# Altium integrated library Renesas Microcontroller R32C.IntLib: 205 symbols (part 15 of 22)
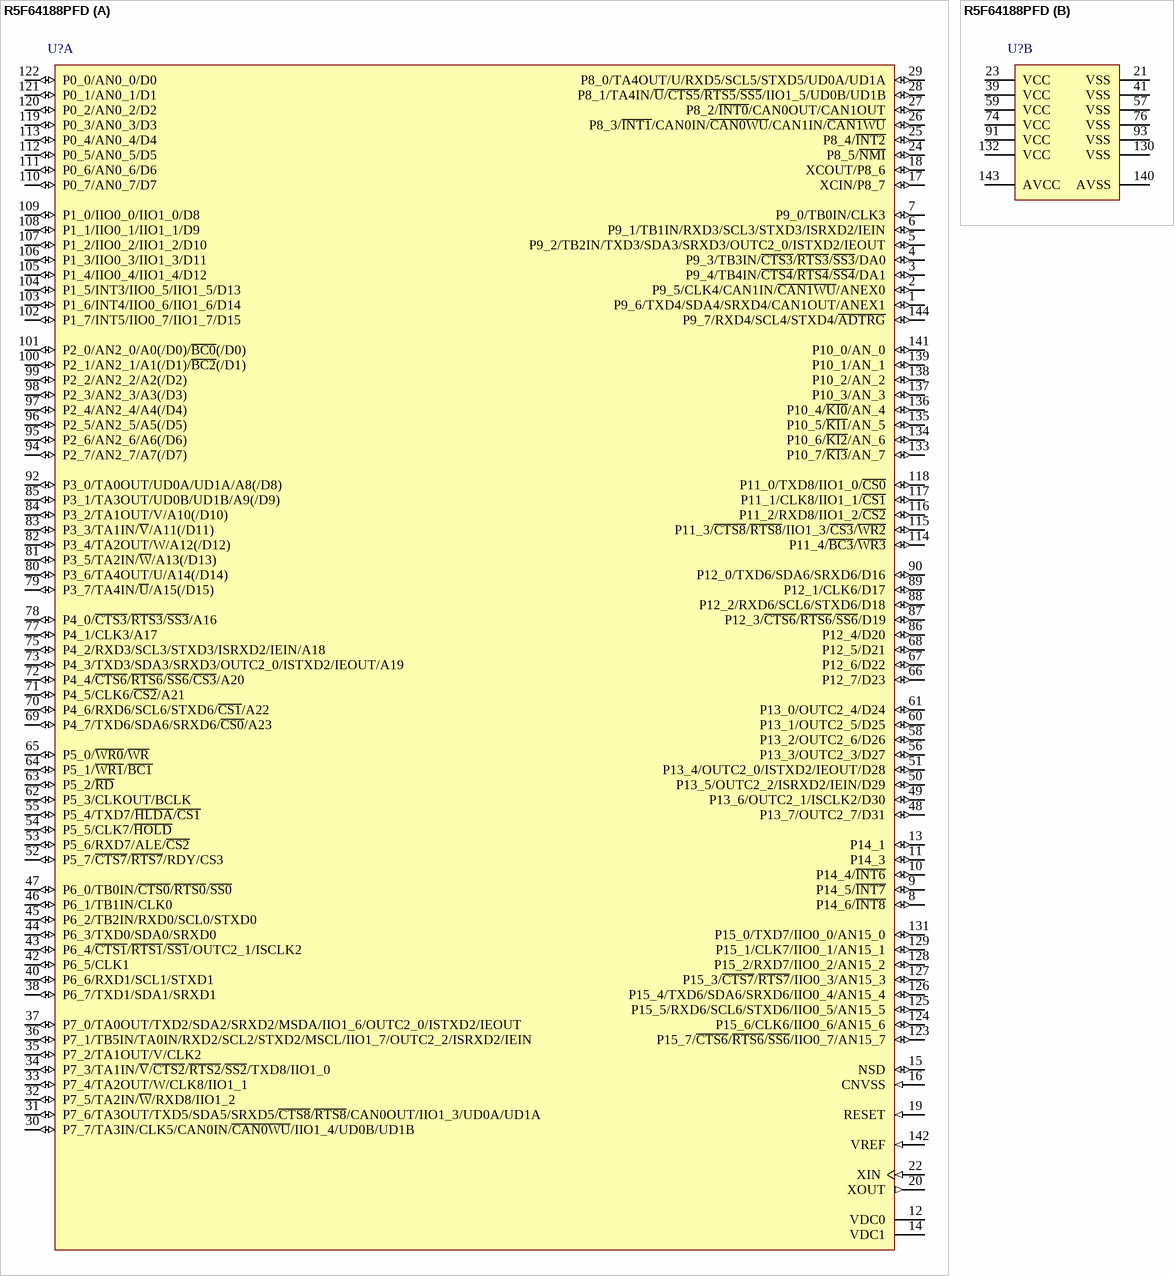
[diagram p153: symbol R5F64188PFD]

## R5F64188PFD
designator U?
Flash Memory R32C/100 Series, 118 Group MCU, 768K + 8K ROM, 63K RAM, 144-pin LQFP, -40 to +85°C, Version P; Published: 28-Aug-2009; LatestRevisionDate: 26-Feb-2010; LatestRevisionNote: Updated to datasheet revision 1.00 Nov-2009.; DatasheetVersion: Rev.1.00, Nov-2009; PackageVersion: Sep-2005; PackageReference: PLQP0144KA-A; Publisher: Altium Limited; PackageDescription: 144-Pin Plastic Low Profile QFP, 20 x 20 x 1.4 mm Body, 0.5 mm Pitch; Code_JEITA: P-LQFP144-20x20-0.50; Code_IPC: SQFP50P2200X2200-144; ComponentLink1Description: Manufacturer Link; ComponentLink1URL: http://sg.renesas.com/fmwk.jsp?cnt=m16c_family_landing.jsp&fp=/products/mpumcu/m16c_family/; ComponentLink2Description: Datasheet; ComponentLink2URL: http://documentation.renesas.com/eng/products/mpumcu/rej03b0255_r32c118ds.pdf; ComponentLink3Description: Packaging Specification; ComponentLink3URL: http://sg.renesas.com/media/products/common_info/package/pdf/ic/code/plqp0144ka_a.pdf
footprint PLQP0144KA-A_N (Shrink QFP, 144-Leads, Body 20x20mm, Pitch 0.5mm, IPC Medium Density)
footprint PLQP0144KA-A_L (Shrink QFP, 144-Leads, Body 20x20mm, Pitch 0.5mm, IPC High Density)
footprint PLQP0144KA-A_M (Shrink QFP, 144-Leads, Body 20x20mm, Pitch 0.5mm, IPC Low Density)
part A pins: 1 P9_6/TXD4/SDA4/SRXD4/CAN1OUT/ANEX1 (io), 2 P9_5/CLK4/CAN1IN/~{CAN1WU}/ANEX0 (io), 3 P9_4/TB4IN/~{CTS4}/~{RTS4}/~{SS4}/DA1 (io), 4 P9_3/TB3IN/~{CTS3}/~{RTS3}/~{SS3}/DA0 (io), 5 P9_2/TB2IN/TXD3/SDA3/SRXD3/OUTC2_0/ISTXD2/IEOUT (io), 6 P9_1/TB1IN/RXD3/SCL3/STXD3/ISRXD2/IEIN (io), 7 P9_0/TB0IN/CLK3 (io), 8 P14_6/~{INT8} (io), 9 P14_5/~{INT7} (io), 10 P14_4/~{INT6} (io), 11 P14_3 (io), 12 VDC0, 13 P14_1 (io), 14 VDC1, 15 NSD (io), 16 CNVSS (in), 17 XCIN/P8_7 (io), 18 XCOUT/P8_6 (io), 19 RESET (in), 20 XOUT (out), 22 XIN (in), 24 P8_5/~{NMI} (io), 25 P8_4/~{INT2} (io), 26 P8_3/~{INT1}/CAN0IN/~{CAN0WU}/CAN1IN/~{CAN1WU} (io), 27 P8_2/~{INT0}/CAN0OUT/CAN1OUT (io), 28 P8_1/TA4IN/~{U}/~{CTS5}/~{RTS5}/~{SS5}/IIO1_5/UD0B/UD1B (io), 29 P8_0/TA4OUT/U/RXD5/SCL5/STXD5/UD0A/UD1A (io), 30 P7_7/TA3IN/CLK5/CAN0IN/~{CAN0WU}/IIO1_4/UD0B/UD1B (io), 31 P7_6/TA3OUT/TXD5/SDA5/SRXD5/~{CTS8}/~{RTS8}/CAN0OUT/IIO1_3/UD0A/UD1A (io), 32 P7_5/TA2IN/~{W}/RXD8/IIO1_2 (io), 33 P7_4/TA2OUT/W/CLK8/IIO1_1 (io), 34 P7_3/TA1IN/~{V}/~{CTS2}/~{RTS2}/~{SS2}/TXD8/IIO1_0 (io), 35 P7_2/TA1OUT/V/CLK2 (io), 36 P7_1/TB5IN/TA0IN/RXD2/SCL2/STXD2/MSCL/IIO1_7/OUTC2_2/ISRXD2/IEIN (io), 37 P7_0/TA0OUT/TXD2/SDA2/SRXD2/MSDA/IIO1_6/OUTC2_0/ISTXD2/IEOUT (io), 38 P6_7/TXD1/SDA1/SRXD1 (io), 40 P6_6/RXD1/SCL1/STXD1 (io), 42 P6_5/CLK1 (io), 43 P6_4/~{CTS1}/~{RTS1}/~{SS1}/OUTC2_1/ISCLK2 (io), 44 P6_3/TXD0/SDA0/SRXD0 (io), 45 P6_2/TB2IN/RXD0/SCL0/STXD0 (io), 46 P6_1/TB1IN/CLK0 (io), 47 P6_0/TB0IN/~{CTS0}/~{RTS0}/~{SS0} (io), 48 P13_7/OUTC2_7/D31 (io), 49 P13_6/OUTC2_1/ISCLK2/D30 (io), 50 P13_5/OUTC2_2/ISRXD2/IEIN/D29 (io), 51 P13_4/OUTC2_0/ISTXD2/IEOUT/D28 (io), 52 P5_7/~{CTS7}/~{RTS7}/RDY/CS3 (io), 53 P5_6/RXD7/ALE/~{CS2} (io), 54 P5_5/CLK7/~{HOLD} (io), 55 P5_4/TXD7/~{HLDA}/~{CS1} (io), 56 P13_3/OUTC2_3/D27 (io), 58 P13_2/OUTC2_6/D26 (io), 60 P13_1/OUTC2_5/D25 (io), 61 P13_0/OUTC2_4/D24 (io), 62 P5_3/CLKOUT/BCLK (io), 63 P5_2/~{RD} (io), 64 P5_1/~{WR1}/~{BC1} (io), 65 P5_0/~{WR0}/~{WR} (io), 66 P12_7/D23 (io), 67 P12_6/D22 (io), 68 P12_5/D21 (io), 69 P4_7/TXD6/SDA6/SRXD6/~{CS0}/A23 (io), 70 P4_6/RXD6/SCL6/STXD6/~{CS1}/A22 (io), 71 P4_5/CLK6/~{CS2}/A21 (io), 72 P4_4/~{CTS6}/~{RTS6}/~{SS6}/~{CS3}/A20 (io), 73 P4_3/TXD3/SDA3/SRXD3/OUTC2_0/ISTXD2/IEOUT/A19 (io), 75 P4_2/RXD3/SCL3/STXD3/ISRXD2/IEIN/A18 (io), 77 P4_1/CLK3/A17 (io), 78 P4_0/~{CTS3}/~{RTS3}/~{SS3}/A16 (io), 79 P3_7/TA4IN/~{U}/A15(/D15) (io), 80 P3_6/TA4OUT/U/A14(/D14) (io), 81 P3_5/TA2IN/~{W}/A13(/D13) (io), 82 P3_4/TA2OUT/W/A12(/D12) (io), 83 P3_3/TA1IN/~{V}/A11(/D11) (io), 84 P3_2/TA1OUT/V/A10(/D10) (io), 85 P3_1/TA3OUT/UD0B/UD1B/A9(/D9) (io), 86 P12_4/D20 (io), 87 P12_3/~{CTS6}/~{RTS6}/~{SS6}/D19 (io), 88 P12_2/RXD6/SCL6/STXD6/D18 (io), 89 P12_1/CLK6/D17 (io), 90 P12_0/TXD6/SDA6/SRXD6/D16 (io), 92 P3_0/TA0OUT/UD0A/UD1A/A8(/D8) (io), 94 P2_7/AN2_7/A7(/D7) (io), 95 P2_6/AN2_6/A6(/D6) (io), 96 P2_5/AN2_5/A5(/D5) (io), 97 P2_4/AN2_4/A4(/D4) (io), 98 P2_3/AN2_3/A3(/D3) (io), 99 P2_2/AN2_2/A2(/D2) (io), 100 P2_1/AN2_1/A1(/D1)/~{BC2}(/D1) (io), 101 P2_0/AN2_0/A0(/D0)/~{BC0}(/D0) (io), 102 P1_7/INT5/IIO0_7/IIO1_7/D15 (io), 103 P1_6/INT4/IIO0_6/IIO1_6/D14 (io), 104 P1_5/INT3/IIO0_5/IIO1_5/D13 (io), 105 P1_4/IIO0_4/IIO1_4/D12 (io), 106 P1_3/IIO0_3/IIO1_3/D11 (io), 107 P1_2/IIO0_2/IIO1_2/D10 (io), 108 P1_1/IIO0_1/IIO1_1/D9 (io), 109 P1_0/IIO0_0/IIO1_0/D8 (io), 110 P0_7/AN0_7/D7 (io), 111 P0_6/AN0_6/D6 (io), 112 P0_5/AN0_5/D5 (io), 113 P0_4/AN0_4/D4 (io), 114 P11_4/~{BC3}/~{WR3} (io), 115 P11_3/~{CTS8}/~{RTS8}/IIO1_3/~{CS3}/~{WR2} (io), 116 P11_2/RXD8/IIO1_2/~{CS2} (io), 117 P11_1/CLK8/IIO1_1/~{CS1} (io), 118 P11_0/TXD8/IIO1_0/~{CS0} (io), 119 P0_3/AN0_3/D3 (io), 120 P0_2/AN0_2/D2 (io), 121 P0_1/AN0_1/D1 (io), 122 P0_0/AN0_0/D0 (io), 123 P15_7/~{CTS6}/~{RTS6}/~{SS6}/IIO0_7/AN15_7 (io), 124 P15_6/CLK6/IIO0_6/AN15_6 (io), 125 P15_5/RXD6/SCL6/STXD6/IIO0_5/AN15_5 (io), 126 P15_4/TXD6/SDA6/SRXD6/IIO0_4/AN15_4 (io), 127 P15_3/~{CTS7}/~{RTS7}/IIO0_3/AN15_3 (io), 128 P15_2/RXD7/IIO0_2/AN15_2 (io), 129 P15_1/CLK7/IIO0_1/AN15_1 (io), 131 P15_0/TXD7/IIO0_0/AN15_0 (io), 133 P10_7/~{KI3}/AN_7 (io), 134 P10_6/~{KI2}/AN_6 (io), 135 P10_5/~{KI1}/AN_5 (io), 136 P10_4/~{KI0}/AN_4 (io), 137 P10_3/AN_3 (io), 138 P10_2/AN_2 (io), 139 P10_1/AN_1 (io), 141 P10_0/AN_0 (io), 142 VREF (in), 144 P9_7/RXD4/SCL4/STXD4/~{ADTRG} (io)
part B pins: 21 VSS (power), 23 VCC (power), 39 VCC (power), 41 VSS (power), 57 VSS (power), 59 VCC (power), 74 VCC (power), 76 VSS (power), 91 VCC (power), 93 VSS (power), 130 VSS (power), 132 VCC (power), 140 AVSS (power), 143 AVCC (power)

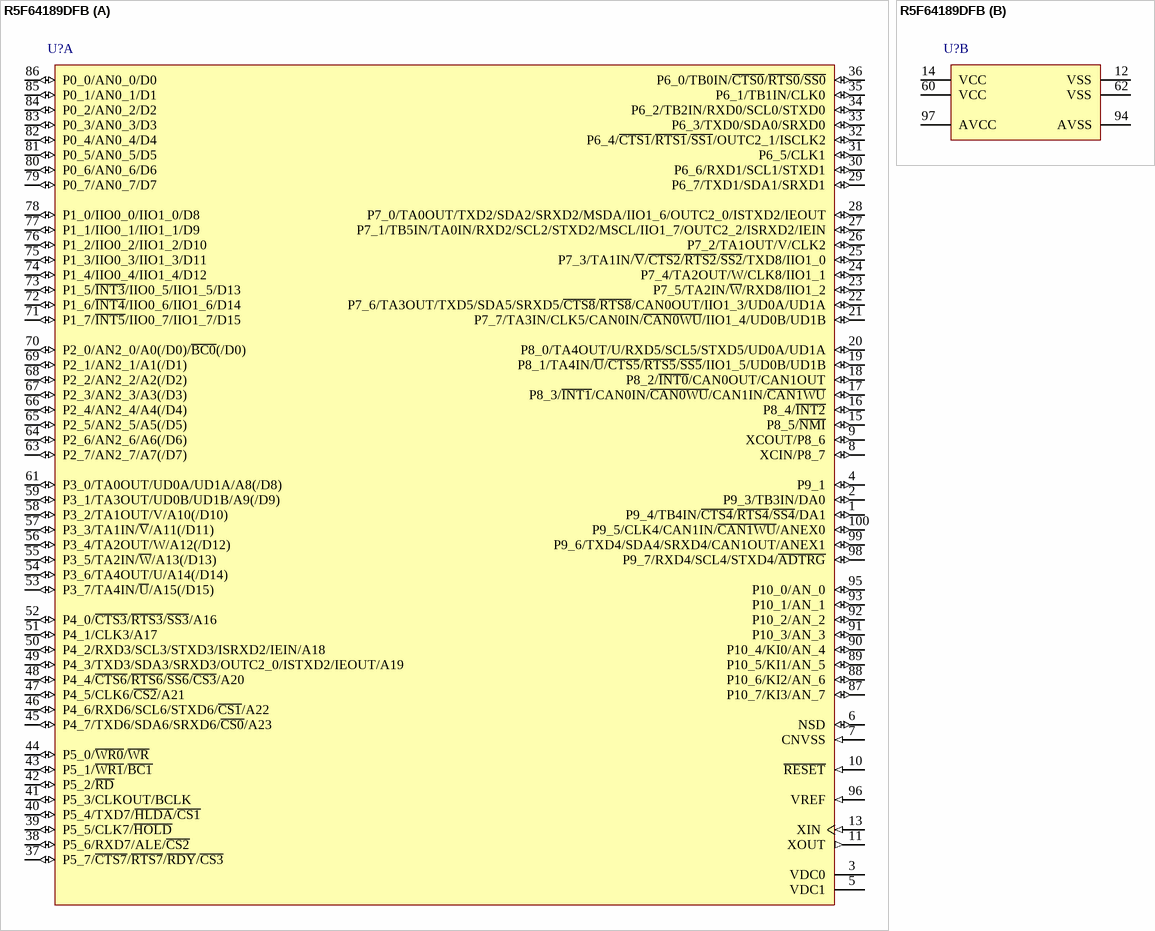
[diagram p102: symbol R5F64189DFB]

## R5F64189DFB
designator U?
Flash Memory R32C/100 Series, 118 Group MCU, 1024K + 8K ROM, 63K RAM, 100-pin LQFP, -40 to +85°C, Version D; Published: 28-Aug-2009; LatestRevisionDate: 26-Feb-2010; LatestRevisionNote: Updated to datasheet revision 1.00 Nov-2009.; DatasheetVersion: Rev.1.00, Nov-2009; PackageVersion: Sep-2005; PackageReference: PLQP0100KB-A; Publisher: Altium Limited; PackageDescription: 100-Pin Plastic Low Profile QFP, 14 x 14 x 1.4 mm Body, 0.5 mm Pitch; Code_JEITA: P-LQFP100-14x14-0.50; Code_IPC: SQFP50P1600X1600-100; ComponentLink1Description: Manufacturer Link; ComponentLink1URL: http://sg.renesas.com/fmwk.jsp?cnt=m16c_family_landing.jsp&fp=/products/mpumcu/m16c_family/; ComponentLink2Description: Datasheet; ComponentLink2URL: http://documentation.renesas.com/eng/products/mpumcu/rej03b0255_r32c118ds.pdf; ComponentLink3Description: Packaging Specification; ComponentLink3URL: http://sg.renesas.com/media/products/common_info/package/pdf/ic/code/plqp0100kb_a.pdf
footprint PLQP0100KB-A_N (Shrink QFP, 100-Leads, Body 14x14mm, Pitch 0.5mm, IPC Medium Density)
footprint PLQP0100KB-A_L (Shrink QFP, 100-Leads, Body 14x14mm, Pitch 0.5mm, IPC High Density)
footprint PLQP0100KB-A_M (Shrink QFP, 100-Leads, Body 14x14mm, Pitch 0.5mm, IPC Low Density)
part A pins: 1 P9_4/TB4IN/~{CTS4}/~{RTS4}/~{SS4}/DA1 (io), 2 P9_3/TB3IN/DA0 (io), 3 VDC0, 4 P9_1 (io), 5 VDC1, 6 NSD (io), 7 CNVSS (in), 8 XCIN/P8_7 (io), 9 XCOUT/P8_6 (io), 10 ~{RESET} (in), 11 XOUT (out), 13 XIN (in), 15 P8_5/~{NMI} (io), 16 P8_4/~{INT2} (io), 17 P8_3/~{INT1}/CAN0IN/~{CAN0WU}/CAN1IN/~{CAN1WU} (io), 18 P8_2/~{INT0}/CAN0OUT/CAN1OUT (io), 19 P8_1/TA4IN/~{U}/~{CTS5}/~{RTS5}/~{SS5}/IIO1_5/UD0B/UD1B (io), 20 P8_0/TA4OUT/U/RXD5/SCL5/STXD5/UD0A/UD1A (io), 21 P7_7/TA3IN/CLK5/CAN0IN/~{CAN0WU}/IIO1_4/UD0B/UD1B (io), 22 P7_6/TA3OUT/TXD5/SDA5/SRXD5/~{CTS8}/~{RTS8}/CAN0OUT/IIO1_3/UD0A/UD1A (io), 23 P7_5/TA2IN/~{W}/RXD8/IIO1_2 (io), 24 P7_4/TA2OUT/W/CLK8/IIO1_1 (io), 25 P7_3/TA1IN/~{V}/~{CTS2}/~{RTS2}/~{SS2}/TXD8/IIO1_0 (io), 26 P7_2/TA1OUT/V/CLK2 (io), 27 P7_1/TB5IN/TA0IN/RXD2/SCL2/STXD2/MSCL/IIO1_7/OUTC2_2/ISRXD2/IEIN (io), 28 P7_0/TA0OUT/TXD2/SDA2/SRXD2/MSDA/IIO1_6/OUTC2_0/ISTXD2/IEOUT (io), 29 P6_7/TXD1/SDA1/SRXD1 (io), 30 P6_6/RXD1/SCL1/STXD1 (io), 31 P6_5/CLK1 (io), 32 P6_4/~{CTS1}/~{RTS1}/~{SS1}/OUTC2_1/ISCLK2 (io), 33 P6_3/TXD0/SDA0/SRXD0 (io), 34 P6_2/TB2IN/RXD0/SCL0/STXD0 (io), 35 P6_1/TB1IN/CLK0 (io), 36 P6_0/TB0IN/~{CTS0}/~{RTS0}/~{SS0} (io), 37 P5_7/~{CTS7}/~{RTS7}/~{RDY}/~{CS3} (io), 38 P5_6/RXD7/ALE/~{CS2} (io), 39 P5_5/CLK7/~{HOLD} (io), 40 P5_4/TXD7/~{HLDA}/~{CS1} (io), 41 P5_3/CLKOUT/BCLK (io), 42 P5_2/~{RD} (io), 43 P5_1/~{WR1}/~{BC1} (io), 44 P5_0/~{WR0}/~{WR} (io), 45 P4_7/TXD6/SDA6/SRXD6/~{CS0}/A23 (io), 46 P4_6/RXD6/SCL6/STXD6/~{CS1}/A22 (io), 47 P4_5/CLK6/~{CS2}/A21 (io), 48 P4_4/~{CTS6}/~{RTS6}/~{SS6}/~{CS3}/A20 (io), 49 P4_3/TXD3/SDA3/SRXD3/OUTC2_0/ISTXD2/IEOUT/A19 (io), 50 P4_2/RXD3/SCL3/STXD3/ISRXD2/IEIN/A18 (io), 51 P4_1/CLK3/A17 (io), 52 P4_0/~{CTS3}/~{RTS3}/~{SS3}/A16 (io), 53 P3_7/TA4IN/~{U}/A15(/D15) (io), 54 P3_6/TA4OUT/U/A14(/D14) (io), 55 P3_5/TA2IN/~{W}/A13(/D13) (io), 56 P3_4/TA2OUT/W/A12(/D12) (io), 57 P3_3/TA1IN/~{V}/A11(/D11) (io), 58 P3_2/TA1OUT/V/A10(/D10) (io), 59 P3_1/TA3OUT/UD0B/UD1B/A9(/D9) (io), 61 P3_0/TA0OUT/UD0A/UD1A/A8(/D8) (io), 63 P2_7/AN2_7/A7(/D7) (io), 64 P2_6/AN2_6/A6(/D6) (io), 65 P2_5/AN2_5/A5(/D5) (io), 66 P2_4/AN2_4/A4(/D4) (io), 67 P2_3/AN2_3/A3(/D3) (io), 68 P2_2/AN2_2/A2(/D2) (io), 69 P2_1/AN2_1/A1(/D1) (io), 70 P2_0/AN2_0/A0(/D0)/~{BC0}(/D0) (io), 71 P1_7/~{INT5}/IIO0_7/IIO1_7/D15 (io), 72 P1_6/~{INT4}/IIO0_6/IIO1_6/D14 (io), 73 P1_5/~{INT3}/IIO0_5/IIO1_5/D13 (io), 74 P1_4/IIO0_4/IIO1_4/D12 (io), 75 P1_3/IIO0_3/IIO1_3/D11 (io), 76 P1_2/IIO0_2/IIO1_2/D10 (io), 77 P1_1/IIO0_1/IIO1_1/D9 (io), 78 P1_0/IIO0_0/IIO1_0/D8 (io), 79 P0_7/AN0_7/D7 (io), 80 P0_6/AN0_6/D6 (io), 81 P0_5/AN0_5/D5 (io), 82 P0_4/AN0_4/D4 (io), 83 P0_3/AN0_3/D3 (io), 84 P0_2/AN0_2/D2 (io), 85 P0_1/AN0_1/D1 (io), 86 P0_0/AN0_0/D0 (io), 87 P10_7/KI3/AN_7 (io), 88 P10_6/KI2/AN_6 (io), 89 P10_5/KI1/AN_5 (io), 90 P10_4/KI0/AN_4 (io), 91 P10_3/AN_3 (io), 92 P10_2/AN_2 (io), 93 P10_1/AN_1 (io), 95 P10_0/AN_0 (io), 96 VREF (in), 98 P9_7/RXD4/SCL4/STXD4/~{ADTRG} (io), 99 P9_6/TXD4/SDA4/SRXD4/CAN1OUT/ANEX1 (io), 100 P9_5/CLK4/CAN1IN/~{CAN1WU}/ANEX0 (io)
part B pins: 12 VSS (power), 14 VCC (power), 60 VCC (power), 62 VSS (power), 94 AVSS (power), 97 AVCC (power)

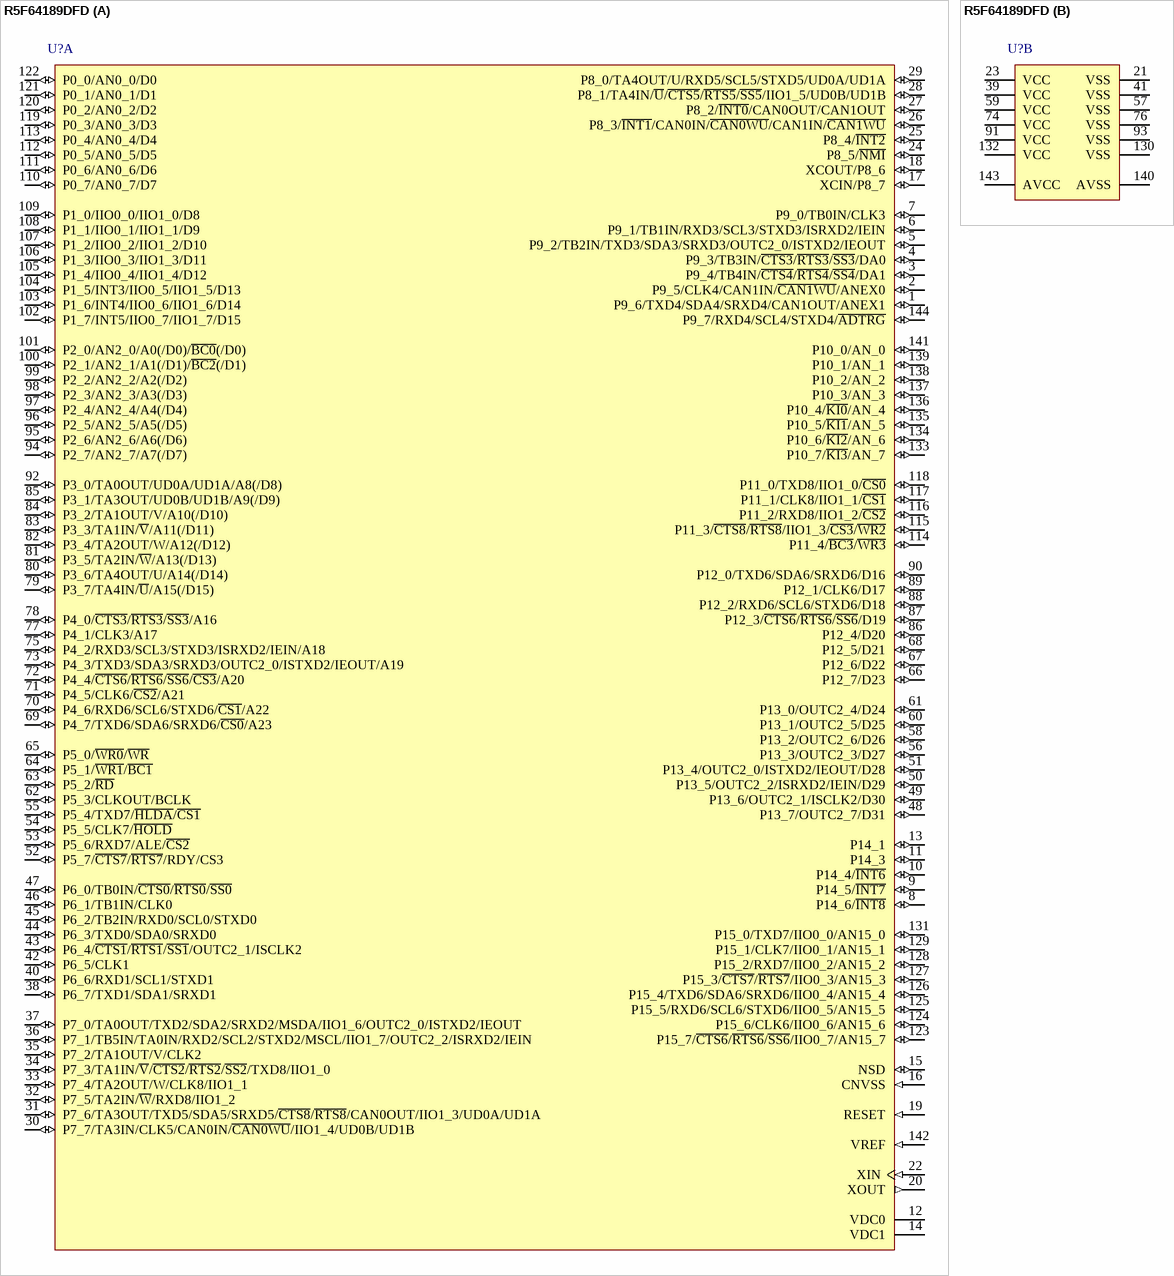
[diagram p103: symbol R5F64189DFD]

## R5F64189DFD
designator U?
Flash Memory R32C/100 Series, 118 Group MCU, 1024K + 8K ROM, 63K RAM, 144-pin LQFP, -40 to +85°C, Version D; Published: 28-Aug-2009; LatestRevisionDate: 26-Feb-2010; LatestRevisionNote: Updated to datasheet revision 1.00 Nov-2009.; DatasheetVersion: Rev.1.00, Nov-2009; PackageVersion: Sep-2005; PackageReference: PLQP0144KA-A; Publisher: Altium Limited; PackageDescription: 144-Pin Plastic Low Profile QFP, 20 x 20 x 1.4 mm Body, 0.5 mm Pitch; Code_JEITA: P-LQFP144-20x20-0.50; Code_IPC: SQFP50P2200X2200-144; ComponentLink1Description: Manufacturer Link; ComponentLink1URL: http://sg.renesas.com/fmwk.jsp?cnt=m16c_family_landing.jsp&fp=/products/mpumcu/m16c_family/; ComponentLink2Description: Datasheet; ComponentLink2URL: http://documentation.renesas.com/eng/products/mpumcu/rej03b0255_r32c118ds.pdf; ComponentLink3Description: Packaging Specification; ComponentLink3URL: http://sg.renesas.com/media/products/common_info/package/pdf/ic/code/plqp0144ka_a.pdf
footprint PLQP0144KA-A_N (Shrink QFP, 144-Leads, Body 20x20mm, Pitch 0.5mm, IPC Medium Density)
footprint PLQP0144KA-A_L (Shrink QFP, 144-Leads, Body 20x20mm, Pitch 0.5mm, IPC High Density)
footprint PLQP0144KA-A_M (Shrink QFP, 144-Leads, Body 20x20mm, Pitch 0.5mm, IPC Low Density)
part A pins: 1 P9_6/TXD4/SDA4/SRXD4/CAN1OUT/ANEX1 (io), 2 P9_5/CLK4/CAN1IN/~{CAN1WU}/ANEX0 (io), 3 P9_4/TB4IN/~{CTS4}/~{RTS4}/~{SS4}/DA1 (io), 4 P9_3/TB3IN/~{CTS3}/~{RTS3}/~{SS3}/DA0 (io), 5 P9_2/TB2IN/TXD3/SDA3/SRXD3/OUTC2_0/ISTXD2/IEOUT (io), 6 P9_1/TB1IN/RXD3/SCL3/STXD3/ISRXD2/IEIN (io), 7 P9_0/TB0IN/CLK3 (io), 8 P14_6/~{INT8} (io), 9 P14_5/~{INT7} (io), 10 P14_4/~{INT6} (io), 11 P14_3 (io), 12 VDC0, 13 P14_1 (io), 14 VDC1, 15 NSD (io), 16 CNVSS (in), 17 XCIN/P8_7 (io), 18 XCOUT/P8_6 (io), 19 RESET (in), 20 XOUT (out), 22 XIN (in), 24 P8_5/~{NMI} (io), 25 P8_4/~{INT2} (io), 26 P8_3/~{INT1}/CAN0IN/~{CAN0WU}/CAN1IN/~{CAN1WU} (io), 27 P8_2/~{INT0}/CAN0OUT/CAN1OUT (io), 28 P8_1/TA4IN/~{U}/~{CTS5}/~{RTS5}/~{SS5}/IIO1_5/UD0B/UD1B (io), 29 P8_0/TA4OUT/U/RXD5/SCL5/STXD5/UD0A/UD1A (io), 30 P7_7/TA3IN/CLK5/CAN0IN/~{CAN0WU}/IIO1_4/UD0B/UD1B (io), 31 P7_6/TA3OUT/TXD5/SDA5/SRXD5/~{CTS8}/~{RTS8}/CAN0OUT/IIO1_3/UD0A/UD1A (io), 32 P7_5/TA2IN/~{W}/RXD8/IIO1_2 (io), 33 P7_4/TA2OUT/W/CLK8/IIO1_1 (io), 34 P7_3/TA1IN/~{V}/~{CTS2}/~{RTS2}/~{SS2}/TXD8/IIO1_0 (io), 35 P7_2/TA1OUT/V/CLK2 (io), 36 P7_1/TB5IN/TA0IN/RXD2/SCL2/STXD2/MSCL/IIO1_7/OUTC2_2/ISRXD2/IEIN (io), 37 P7_0/TA0OUT/TXD2/SDA2/SRXD2/MSDA/IIO1_6/OUTC2_0/ISTXD2/IEOUT (io), 38 P6_7/TXD1/SDA1/SRXD1 (io), 40 P6_6/RXD1/SCL1/STXD1 (io), 42 P6_5/CLK1 (io), 43 P6_4/~{CTS1}/~{RTS1}/~{SS1}/OUTC2_1/ISCLK2 (io), 44 P6_3/TXD0/SDA0/SRXD0 (io), 45 P6_2/TB2IN/RXD0/SCL0/STXD0 (io), 46 P6_1/TB1IN/CLK0 (io), 47 P6_0/TB0IN/~{CTS0}/~{RTS0}/~{SS0} (io), 48 P13_7/OUTC2_7/D31 (io), 49 P13_6/OUTC2_1/ISCLK2/D30 (io), 50 P13_5/OUTC2_2/ISRXD2/IEIN/D29 (io), 51 P13_4/OUTC2_0/ISTXD2/IEOUT/D28 (io), 52 P5_7/~{CTS7}/~{RTS7}/RDY/CS3 (io), 53 P5_6/RXD7/ALE/~{CS2} (io), 54 P5_5/CLK7/~{HOLD} (io), 55 P5_4/TXD7/~{HLDA}/~{CS1} (io), 56 P13_3/OUTC2_3/D27 (io), 58 P13_2/OUTC2_6/D26 (io), 60 P13_1/OUTC2_5/D25 (io), 61 P13_0/OUTC2_4/D24 (io), 62 P5_3/CLKOUT/BCLK (io), 63 P5_2/~{RD} (io), 64 P5_1/~{WR1}/~{BC1} (io), 65 P5_0/~{WR0}/~{WR} (io), 66 P12_7/D23 (io), 67 P12_6/D22 (io), 68 P12_5/D21 (io), 69 P4_7/TXD6/SDA6/SRXD6/~{CS0}/A23 (io), 70 P4_6/RXD6/SCL6/STXD6/~{CS1}/A22 (io), 71 P4_5/CLK6/~{CS2}/A21 (io), 72 P4_4/~{CTS6}/~{RTS6}/~{SS6}/~{CS3}/A20 (io), 73 P4_3/TXD3/SDA3/SRXD3/OUTC2_0/ISTXD2/IEOUT/A19 (io), 75 P4_2/RXD3/SCL3/STXD3/ISRXD2/IEIN/A18 (io), 77 P4_1/CLK3/A17 (io), 78 P4_0/~{CTS3}/~{RTS3}/~{SS3}/A16 (io), 79 P3_7/TA4IN/~{U}/A15(/D15) (io), 80 P3_6/TA4OUT/U/A14(/D14) (io), 81 P3_5/TA2IN/~{W}/A13(/D13) (io), 82 P3_4/TA2OUT/W/A12(/D12) (io), 83 P3_3/TA1IN/~{V}/A11(/D11) (io), 84 P3_2/TA1OUT/V/A10(/D10) (io), 85 P3_1/TA3OUT/UD0B/UD1B/A9(/D9) (io), 86 P12_4/D20 (io), 87 P12_3/~{CTS6}/~{RTS6}/~{SS6}/D19 (io), 88 P12_2/RXD6/SCL6/STXD6/D18 (io), 89 P12_1/CLK6/D17 (io), 90 P12_0/TXD6/SDA6/SRXD6/D16 (io), 92 P3_0/TA0OUT/UD0A/UD1A/A8(/D8) (io), 94 P2_7/AN2_7/A7(/D7) (io), 95 P2_6/AN2_6/A6(/D6) (io), 96 P2_5/AN2_5/A5(/D5) (io), 97 P2_4/AN2_4/A4(/D4) (io), 98 P2_3/AN2_3/A3(/D3) (io), 99 P2_2/AN2_2/A2(/D2) (io), 100 P2_1/AN2_1/A1(/D1)/~{BC2}(/D1) (io), 101 P2_0/AN2_0/A0(/D0)/~{BC0}(/D0) (io), 102 P1_7/INT5/IIO0_7/IIO1_7/D15 (io), 103 P1_6/INT4/IIO0_6/IIO1_6/D14 (io), 104 P1_5/INT3/IIO0_5/IIO1_5/D13 (io), 105 P1_4/IIO0_4/IIO1_4/D12 (io), 106 P1_3/IIO0_3/IIO1_3/D11 (io), 107 P1_2/IIO0_2/IIO1_2/D10 (io), 108 P1_1/IIO0_1/IIO1_1/D9 (io), 109 P1_0/IIO0_0/IIO1_0/D8 (io), 110 P0_7/AN0_7/D7 (io), 111 P0_6/AN0_6/D6 (io), 112 P0_5/AN0_5/D5 (io), 113 P0_4/AN0_4/D4 (io), 114 P11_4/~{BC3}/~{WR3} (io), 115 P11_3/~{CTS8}/~{RTS8}/IIO1_3/~{CS3}/~{WR2} (io), 116 P11_2/RXD8/IIO1_2/~{CS2} (io), 117 P11_1/CLK8/IIO1_1/~{CS1} (io), 118 P11_0/TXD8/IIO1_0/~{CS0} (io), 119 P0_3/AN0_3/D3 (io), 120 P0_2/AN0_2/D2 (io), 121 P0_1/AN0_1/D1 (io), 122 P0_0/AN0_0/D0 (io), 123 P15_7/~{CTS6}/~{RTS6}/~{SS6}/IIO0_7/AN15_7 (io), 124 P15_6/CLK6/IIO0_6/AN15_6 (io), 125 P15_5/RXD6/SCL6/STXD6/IIO0_5/AN15_5 (io), 126 P15_4/TXD6/SDA6/SRXD6/IIO0_4/AN15_4 (io), 127 P15_3/~{CTS7}/~{RTS7}/IIO0_3/AN15_3 (io), 128 P15_2/RXD7/IIO0_2/AN15_2 (io), 129 P15_1/CLK7/IIO0_1/AN15_1 (io), 131 P15_0/TXD7/IIO0_0/AN15_0 (io), 133 P10_7/~{KI3}/AN_7 (io), 134 P10_6/~{KI2}/AN_6 (io), 135 P10_5/~{KI1}/AN_5 (io), 136 P10_4/~{KI0}/AN_4 (io), 137 P10_3/AN_3 (io), 138 P10_2/AN_2 (io), 139 P10_1/AN_1 (io), 141 P10_0/AN_0 (io), 142 VREF (in), 144 P9_7/RXD4/SCL4/STXD4/~{ADTRG} (io)
part B pins: 21 VSS (power), 23 VCC (power), 39 VCC (power), 41 VSS (power), 57 VSS (power), 59 VCC (power), 74 VCC (power), 76 VSS (power), 91 VCC (power), 93 VSS (power), 130 VSS (power), 132 VCC (power), 140 AVSS (power), 143 AVCC (power)

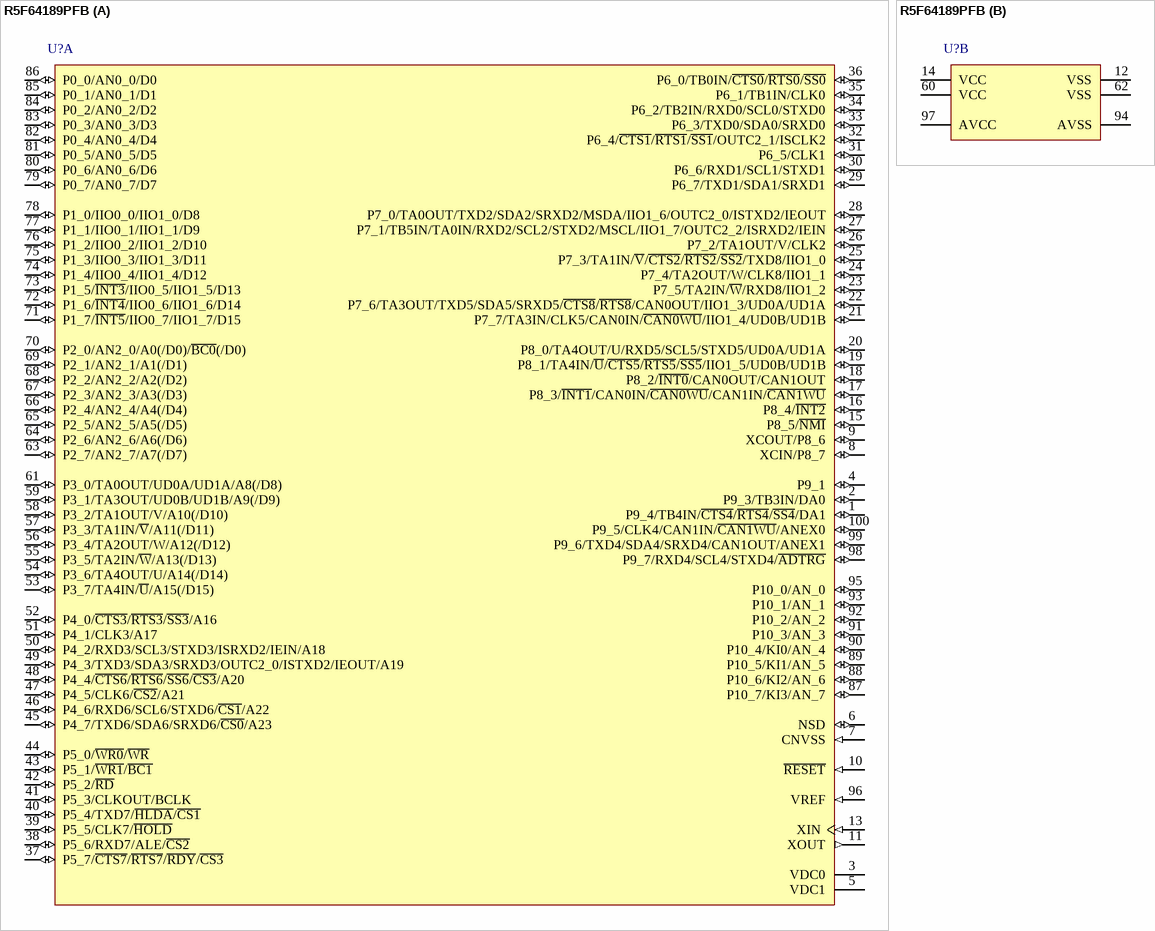
[diagram p104: symbol R5F64189PFB]

## R5F64189PFB
designator U?
Flash Memory R32C/100 Series, 118 Group MCU, 1024K + 8K ROM, 63K RAM, 100-pin LQFP, -40 to +85°C, Version P; Published: 28-Aug-2009; LatestRevisionDate: 26-Feb-2010; LatestRevisionNote: Updated to datasheet revision 1.00 Nov-2009.; DatasheetVersion: Rev.1.00, Nov-2009; PackageVersion: Sep-2005; PackageReference: PLQP0100KB-A; Publisher: Altium Limited; PackageDescription: 100-Pin Plastic Low Profile QFP, 14 x 14 x 1.4 mm Body, 0.5 mm Pitch; Code_JEITA: P-LQFP100-14x14-0.50; Code_IPC: SQFP50P1600X1600-100; ComponentLink1Description: Manufacturer Link; ComponentLink1URL: http://sg.renesas.com/fmwk.jsp?cnt=m16c_family_landing.jsp&fp=/products/mpumcu/m16c_family/; ComponentLink2Description: Datasheet; ComponentLink2URL: http://documentation.renesas.com/eng/products/mpumcu/rej03b0255_r32c118ds.pdf; ComponentLink3Description: Packaging Specification; ComponentLink3URL: http://sg.renesas.com/media/products/common_info/package/pdf/ic/code/plqp0100kb_a.pdf
footprint PLQP0100KB-A_N (Shrink QFP, 100-Leads, Body 14x14mm, Pitch 0.5mm, IPC Medium Density)
footprint PLQP0100KB-A_L (Shrink QFP, 100-Leads, Body 14x14mm, Pitch 0.5mm, IPC High Density)
footprint PLQP0100KB-A_M (Shrink QFP, 100-Leads, Body 14x14mm, Pitch 0.5mm, IPC Low Density)
part A pins: 1 P9_4/TB4IN/~{CTS4}/~{RTS4}/~{SS4}/DA1 (io), 2 P9_3/TB3IN/DA0 (io), 3 VDC0, 4 P9_1 (io), 5 VDC1, 6 NSD (io), 7 CNVSS (in), 8 XCIN/P8_7 (io), 9 XCOUT/P8_6 (io), 10 ~{RESET} (in), 11 XOUT (out), 13 XIN (in), 15 P8_5/~{NMI} (io), 16 P8_4/~{INT2} (io), 17 P8_3/~{INT1}/CAN0IN/~{CAN0WU}/CAN1IN/~{CAN1WU} (io), 18 P8_2/~{INT0}/CAN0OUT/CAN1OUT (io), 19 P8_1/TA4IN/~{U}/~{CTS5}/~{RTS5}/~{SS5}/IIO1_5/UD0B/UD1B (io), 20 P8_0/TA4OUT/U/RXD5/SCL5/STXD5/UD0A/UD1A (io), 21 P7_7/TA3IN/CLK5/CAN0IN/~{CAN0WU}/IIO1_4/UD0B/UD1B (io), 22 P7_6/TA3OUT/TXD5/SDA5/SRXD5/~{CTS8}/~{RTS8}/CAN0OUT/IIO1_3/UD0A/UD1A (io), 23 P7_5/TA2IN/~{W}/RXD8/IIO1_2 (io), 24 P7_4/TA2OUT/W/CLK8/IIO1_1 (io), 25 P7_3/TA1IN/~{V}/~{CTS2}/~{RTS2}/~{SS2}/TXD8/IIO1_0 (io), 26 P7_2/TA1OUT/V/CLK2 (io), 27 P7_1/TB5IN/TA0IN/RXD2/SCL2/STXD2/MSCL/IIO1_7/OUTC2_2/ISRXD2/IEIN (io), 28 P7_0/TA0OUT/TXD2/SDA2/SRXD2/MSDA/IIO1_6/OUTC2_0/ISTXD2/IEOUT (io), 29 P6_7/TXD1/SDA1/SRXD1 (io), 30 P6_6/RXD1/SCL1/STXD1 (io), 31 P6_5/CLK1 (io), 32 P6_4/~{CTS1}/~{RTS1}/~{SS1}/OUTC2_1/ISCLK2 (io), 33 P6_3/TXD0/SDA0/SRXD0 (io), 34 P6_2/TB2IN/RXD0/SCL0/STXD0 (io), 35 P6_1/TB1IN/CLK0 (io), 36 P6_0/TB0IN/~{CTS0}/~{RTS0}/~{SS0} (io), 37 P5_7/~{CTS7}/~{RTS7}/~{RDY}/~{CS3} (io), 38 P5_6/RXD7/ALE/~{CS2} (io), 39 P5_5/CLK7/~{HOLD} (io), 40 P5_4/TXD7/~{HLDA}/~{CS1} (io), 41 P5_3/CLKOUT/BCLK (io), 42 P5_2/~{RD} (io), 43 P5_1/~{WR1}/~{BC1} (io), 44 P5_0/~{WR0}/~{WR} (io), 45 P4_7/TXD6/SDA6/SRXD6/~{CS0}/A23 (io), 46 P4_6/RXD6/SCL6/STXD6/~{CS1}/A22 (io), 47 P4_5/CLK6/~{CS2}/A21 (io), 48 P4_4/~{CTS6}/~{RTS6}/~{SS6}/~{CS3}/A20 (io), 49 P4_3/TXD3/SDA3/SRXD3/OUTC2_0/ISTXD2/IEOUT/A19 (io), 50 P4_2/RXD3/SCL3/STXD3/ISRXD2/IEIN/A18 (io), 51 P4_1/CLK3/A17 (io), 52 P4_0/~{CTS3}/~{RTS3}/~{SS3}/A16 (io), 53 P3_7/TA4IN/~{U}/A15(/D15) (io), 54 P3_6/TA4OUT/U/A14(/D14) (io), 55 P3_5/TA2IN/~{W}/A13(/D13) (io), 56 P3_4/TA2OUT/W/A12(/D12) (io), 57 P3_3/TA1IN/~{V}/A11(/D11) (io), 58 P3_2/TA1OUT/V/A10(/D10) (io), 59 P3_1/TA3OUT/UD0B/UD1B/A9(/D9) (io), 61 P3_0/TA0OUT/UD0A/UD1A/A8(/D8) (io), 63 P2_7/AN2_7/A7(/D7) (io), 64 P2_6/AN2_6/A6(/D6) (io), 65 P2_5/AN2_5/A5(/D5) (io), 66 P2_4/AN2_4/A4(/D4) (io), 67 P2_3/AN2_3/A3(/D3) (io), 68 P2_2/AN2_2/A2(/D2) (io), 69 P2_1/AN2_1/A1(/D1) (io), 70 P2_0/AN2_0/A0(/D0)/~{BC0}(/D0) (io), 71 P1_7/~{INT5}/IIO0_7/IIO1_7/D15 (io), 72 P1_6/~{INT4}/IIO0_6/IIO1_6/D14 (io), 73 P1_5/~{INT3}/IIO0_5/IIO1_5/D13 (io), 74 P1_4/IIO0_4/IIO1_4/D12 (io), 75 P1_3/IIO0_3/IIO1_3/D11 (io), 76 P1_2/IIO0_2/IIO1_2/D10 (io), 77 P1_1/IIO0_1/IIO1_1/D9 (io), 78 P1_0/IIO0_0/IIO1_0/D8 (io), 79 P0_7/AN0_7/D7 (io), 80 P0_6/AN0_6/D6 (io), 81 P0_5/AN0_5/D5 (io), 82 P0_4/AN0_4/D4 (io), 83 P0_3/AN0_3/D3 (io), 84 P0_2/AN0_2/D2 (io), 85 P0_1/AN0_1/D1 (io), 86 P0_0/AN0_0/D0 (io), 87 P10_7/KI3/AN_7 (io), 88 P10_6/KI2/AN_6 (io), 89 P10_5/KI1/AN_5 (io), 90 P10_4/KI0/AN_4 (io), 91 P10_3/AN_3 (io), 92 P10_2/AN_2 (io), 93 P10_1/AN_1 (io), 95 P10_0/AN_0 (io), 96 VREF (in), 98 P9_7/RXD4/SCL4/STXD4/~{ADTRG} (io), 99 P9_6/TXD4/SDA4/SRXD4/CAN1OUT/ANEX1 (io), 100 P9_5/CLK4/CAN1IN/~{CAN1WU}/ANEX0 (io)
part B pins: 12 VSS (power), 14 VCC (power), 60 VCC (power), 62 VSS (power), 94 AVSS (power), 97 AVCC (power)

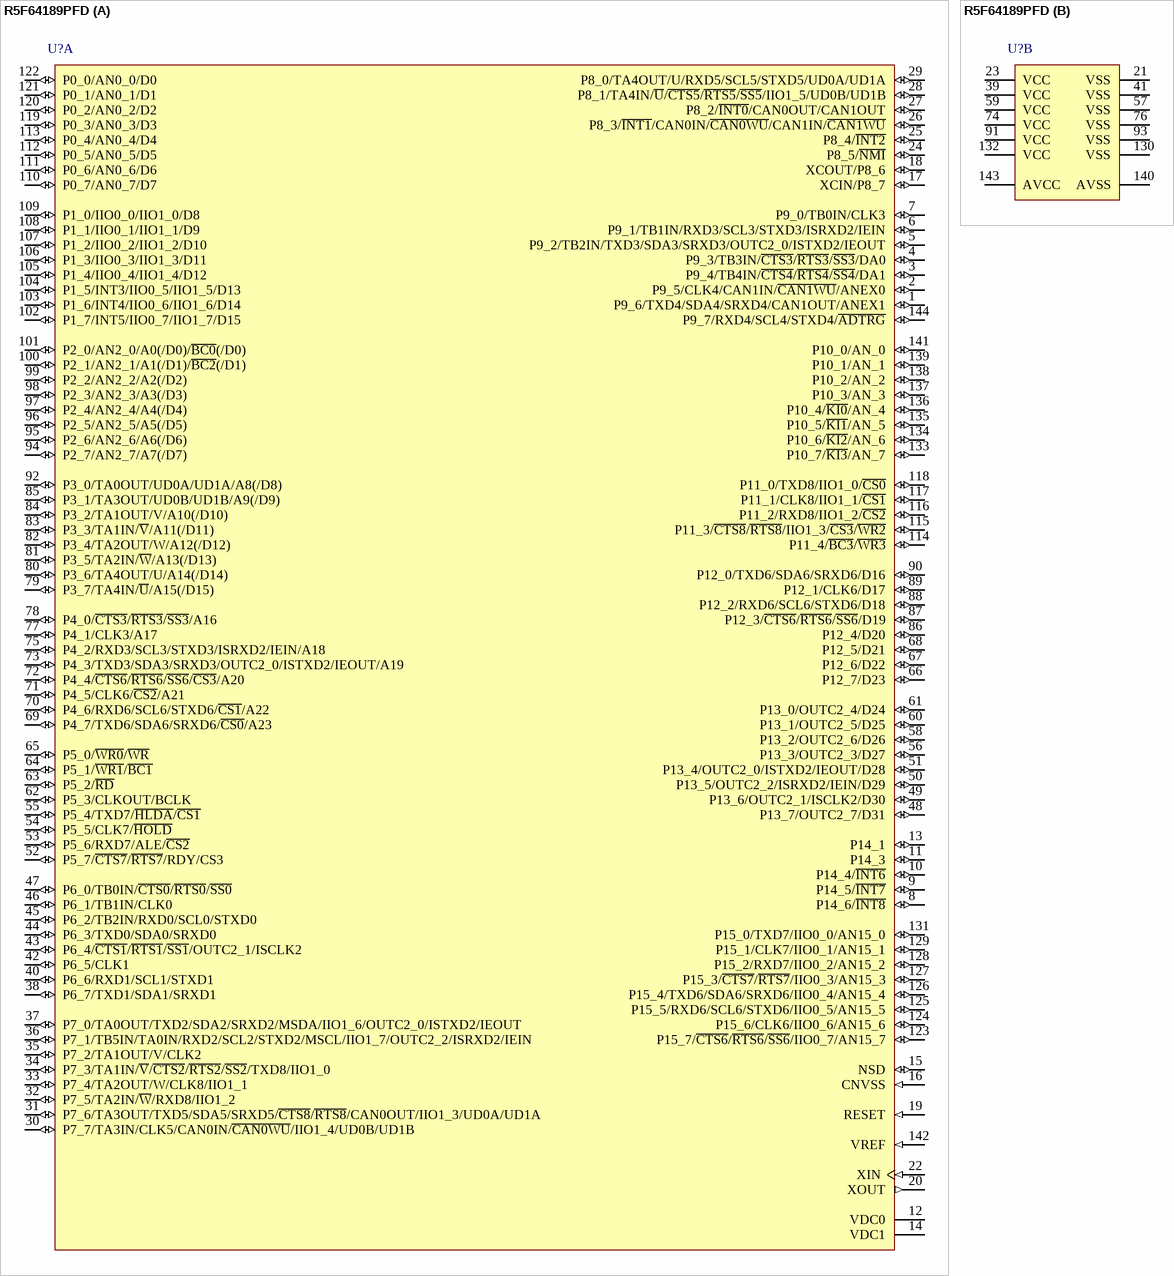
[diagram p105: symbol R5F64189PFD]

## R5F64189PFD
designator U?
Flash Memory R32C/100 Series, 118 Group MCU, 1024K + 8K ROM, 63K RAM, 144-pin LQFP, -40 to +85°C, Version P; Published: 28-Aug-2009; LatestRevisionDate: 26-Feb-2010; LatestRevisionNote: Updated to datasheet revision 1.00 Nov-2009.; DatasheetVersion: Rev.1.00, Nov-2009; PackageVersion: Sep-2005; PackageReference: PLQP0144KA-A; Publisher: Altium Limited; PackageDescription: 144-Pin Plastic Low Profile QFP, 20 x 20 x 1.4 mm Body, 0.5 mm Pitch; Code_JEITA: P-LQFP144-20x20-0.50; Code_IPC: SQFP50P2200X2200-144; ComponentLink1Description: Manufacturer Link; ComponentLink1URL: http://sg.renesas.com/fmwk.jsp?cnt=m16c_family_landing.jsp&fp=/products/mpumcu/m16c_family/; ComponentLink2Description: Datasheet; ComponentLink2URL: http://documentation.renesas.com/eng/products/mpumcu/rej03b0255_r32c118ds.pdf; ComponentLink3Description: Packaging Specification; ComponentLink3URL: http://sg.renesas.com/media/products/common_info/package/pdf/ic/code/plqp0144ka_a.pdf
footprint PLQP0144KA-A_N (Shrink QFP, 144-Leads, Body 20x20mm, Pitch 0.5mm, IPC Medium Density)
footprint PLQP0144KA-A_L (Shrink QFP, 144-Leads, Body 20x20mm, Pitch 0.5mm, IPC High Density)
footprint PLQP0144KA-A_M (Shrink QFP, 144-Leads, Body 20x20mm, Pitch 0.5mm, IPC Low Density)
part A pins: 1 P9_6/TXD4/SDA4/SRXD4/CAN1OUT/ANEX1 (io), 2 P9_5/CLK4/CAN1IN/~{CAN1WU}/ANEX0 (io), 3 P9_4/TB4IN/~{CTS4}/~{RTS4}/~{SS4}/DA1 (io), 4 P9_3/TB3IN/~{CTS3}/~{RTS3}/~{SS3}/DA0 (io), 5 P9_2/TB2IN/TXD3/SDA3/SRXD3/OUTC2_0/ISTXD2/IEOUT (io), 6 P9_1/TB1IN/RXD3/SCL3/STXD3/ISRXD2/IEIN (io), 7 P9_0/TB0IN/CLK3 (io), 8 P14_6/~{INT8} (io), 9 P14_5/~{INT7} (io), 10 P14_4/~{INT6} (io), 11 P14_3 (io), 12 VDC0, 13 P14_1 (io), 14 VDC1, 15 NSD (io), 16 CNVSS (in), 17 XCIN/P8_7 (io), 18 XCOUT/P8_6 (io), 19 RESET (in), 20 XOUT (out), 22 XIN (in), 24 P8_5/~{NMI} (io), 25 P8_4/~{INT2} (io), 26 P8_3/~{INT1}/CAN0IN/~{CAN0WU}/CAN1IN/~{CAN1WU} (io), 27 P8_2/~{INT0}/CAN0OUT/CAN1OUT (io), 28 P8_1/TA4IN/~{U}/~{CTS5}/~{RTS5}/~{SS5}/IIO1_5/UD0B/UD1B (io), 29 P8_0/TA4OUT/U/RXD5/SCL5/STXD5/UD0A/UD1A (io), 30 P7_7/TA3IN/CLK5/CAN0IN/~{CAN0WU}/IIO1_4/UD0B/UD1B (io), 31 P7_6/TA3OUT/TXD5/SDA5/SRXD5/~{CTS8}/~{RTS8}/CAN0OUT/IIO1_3/UD0A/UD1A (io), 32 P7_5/TA2IN/~{W}/RXD8/IIO1_2 (io), 33 P7_4/TA2OUT/W/CLK8/IIO1_1 (io), 34 P7_3/TA1IN/~{V}/~{CTS2}/~{RTS2}/~{SS2}/TXD8/IIO1_0 (io), 35 P7_2/TA1OUT/V/CLK2 (io), 36 P7_1/TB5IN/TA0IN/RXD2/SCL2/STXD2/MSCL/IIO1_7/OUTC2_2/ISRXD2/IEIN (io), 37 P7_0/TA0OUT/TXD2/SDA2/SRXD2/MSDA/IIO1_6/OUTC2_0/ISTXD2/IEOUT (io), 38 P6_7/TXD1/SDA1/SRXD1 (io), 40 P6_6/RXD1/SCL1/STXD1 (io), 42 P6_5/CLK1 (io), 43 P6_4/~{CTS1}/~{RTS1}/~{SS1}/OUTC2_1/ISCLK2 (io), 44 P6_3/TXD0/SDA0/SRXD0 (io), 45 P6_2/TB2IN/RXD0/SCL0/STXD0 (io), 46 P6_1/TB1IN/CLK0 (io), 47 P6_0/TB0IN/~{CTS0}/~{RTS0}/~{SS0} (io), 48 P13_7/OUTC2_7/D31 (io), 49 P13_6/OUTC2_1/ISCLK2/D30 (io), 50 P13_5/OUTC2_2/ISRXD2/IEIN/D29 (io), 51 P13_4/OUTC2_0/ISTXD2/IEOUT/D28 (io), 52 P5_7/~{CTS7}/~{RTS7}/RDY/CS3 (io), 53 P5_6/RXD7/ALE/~{CS2} (io), 54 P5_5/CLK7/~{HOLD} (io), 55 P5_4/TXD7/~{HLDA}/~{CS1} (io), 56 P13_3/OUTC2_3/D27 (io), 58 P13_2/OUTC2_6/D26 (io), 60 P13_1/OUTC2_5/D25 (io), 61 P13_0/OUTC2_4/D24 (io), 62 P5_3/CLKOUT/BCLK (io), 63 P5_2/~{RD} (io), 64 P5_1/~{WR1}/~{BC1} (io), 65 P5_0/~{WR0}/~{WR} (io), 66 P12_7/D23 (io), 67 P12_6/D22 (io), 68 P12_5/D21 (io), 69 P4_7/TXD6/SDA6/SRXD6/~{CS0}/A23 (io), 70 P4_6/RXD6/SCL6/STXD6/~{CS1}/A22 (io), 71 P4_5/CLK6/~{CS2}/A21 (io), 72 P4_4/~{CTS6}/~{RTS6}/~{SS6}/~{CS3}/A20 (io), 73 P4_3/TXD3/SDA3/SRXD3/OUTC2_0/ISTXD2/IEOUT/A19 (io), 75 P4_2/RXD3/SCL3/STXD3/ISRXD2/IEIN/A18 (io), 77 P4_1/CLK3/A17 (io), 78 P4_0/~{CTS3}/~{RTS3}/~{SS3}/A16 (io), 79 P3_7/TA4IN/~{U}/A15(/D15) (io), 80 P3_6/TA4OUT/U/A14(/D14) (io), 81 P3_5/TA2IN/~{W}/A13(/D13) (io), 82 P3_4/TA2OUT/W/A12(/D12) (io), 83 P3_3/TA1IN/~{V}/A11(/D11) (io), 84 P3_2/TA1OUT/V/A10(/D10) (io), 85 P3_1/TA3OUT/UD0B/UD1B/A9(/D9) (io), 86 P12_4/D20 (io), 87 P12_3/~{CTS6}/~{RTS6}/~{SS6}/D19 (io), 88 P12_2/RXD6/SCL6/STXD6/D18 (io), 89 P12_1/CLK6/D17 (io), 90 P12_0/TXD6/SDA6/SRXD6/D16 (io), 92 P3_0/TA0OUT/UD0A/UD1A/A8(/D8) (io), 94 P2_7/AN2_7/A7(/D7) (io), 95 P2_6/AN2_6/A6(/D6) (io), 96 P2_5/AN2_5/A5(/D5) (io), 97 P2_4/AN2_4/A4(/D4) (io), 98 P2_3/AN2_3/A3(/D3) (io), 99 P2_2/AN2_2/A2(/D2) (io), 100 P2_1/AN2_1/A1(/D1)/~{BC2}(/D1) (io), 101 P2_0/AN2_0/A0(/D0)/~{BC0}(/D0) (io), 102 P1_7/INT5/IIO0_7/IIO1_7/D15 (io), 103 P1_6/INT4/IIO0_6/IIO1_6/D14 (io), 104 P1_5/INT3/IIO0_5/IIO1_5/D13 (io), 105 P1_4/IIO0_4/IIO1_4/D12 (io), 106 P1_3/IIO0_3/IIO1_3/D11 (io), 107 P1_2/IIO0_2/IIO1_2/D10 (io), 108 P1_1/IIO0_1/IIO1_1/D9 (io), 109 P1_0/IIO0_0/IIO1_0/D8 (io), 110 P0_7/AN0_7/D7 (io), 111 P0_6/AN0_6/D6 (io), 112 P0_5/AN0_5/D5 (io), 113 P0_4/AN0_4/D4 (io), 114 P11_4/~{BC3}/~{WR3} (io), 115 P11_3/~{CTS8}/~{RTS8}/IIO1_3/~{CS3}/~{WR2} (io), 116 P11_2/RXD8/IIO1_2/~{CS2} (io), 117 P11_1/CLK8/IIO1_1/~{CS1} (io), 118 P11_0/TXD8/IIO1_0/~{CS0} (io), 119 P0_3/AN0_3/D3 (io), 120 P0_2/AN0_2/D2 (io), 121 P0_1/AN0_1/D1 (io), 122 P0_0/AN0_0/D0 (io), 123 P15_7/~{CTS6}/~{RTS6}/~{SS6}/IIO0_7/AN15_7 (io), 124 P15_6/CLK6/IIO0_6/AN15_6 (io), 125 P15_5/RXD6/SCL6/STXD6/IIO0_5/AN15_5 (io), 126 P15_4/TXD6/SDA6/SRXD6/IIO0_4/AN15_4 (io), 127 P15_3/~{CTS7}/~{RTS7}/IIO0_3/AN15_3 (io), 128 P15_2/RXD7/IIO0_2/AN15_2 (io), 129 P15_1/CLK7/IIO0_1/AN15_1 (io), 131 P15_0/TXD7/IIO0_0/AN15_0 (io), 133 P10_7/~{KI3}/AN_7 (io), 134 P10_6/~{KI2}/AN_6 (io), 135 P10_5/~{KI1}/AN_5 (io), 136 P10_4/~{KI0}/AN_4 (io), 137 P10_3/AN_3 (io), 138 P10_2/AN_2 (io), 139 P10_1/AN_1 (io), 141 P10_0/AN_0 (io), 142 VREF (in), 144 P9_7/RXD4/SCL4/STXD4/~{ADTRG} (io)
part B pins: 21 VSS (power), 23 VCC (power), 39 VCC (power), 41 VSS (power), 57 VSS (power), 59 VCC (power), 74 VCC (power), 76 VSS (power), 91 VCC (power), 93 VSS (power), 130 VSS (power), 132 VCC (power), 140 AVSS (power), 143 AVCC (power)

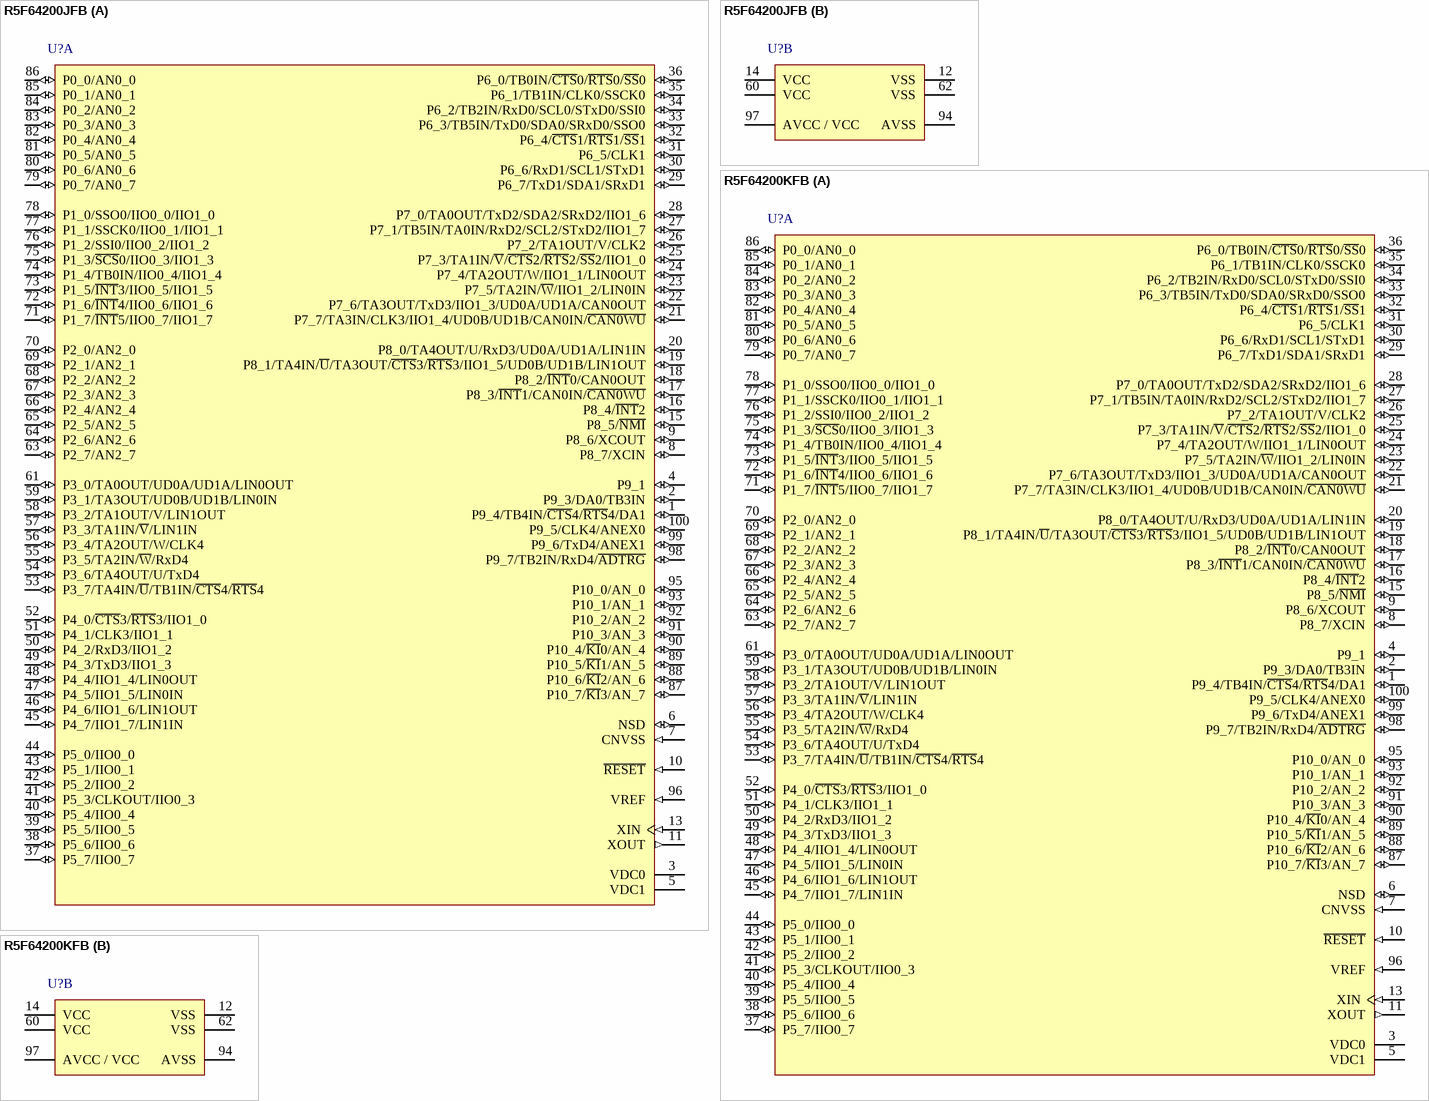
[diagram p106: symbols R5F64200JFB to R5F64200KFB]

## R5F64200JFB
designator U?
Flash Memory R32C/100 Series, 120 Group MCU, 128K + 12K ROM, 12K RAM, 100-pin LQFP, Version J; Published: 28-Aug-2009; DatasheetVersion: Rev.0.50, Jul-2008; PackageVersion: Sep-2005; PackageReference: PLQP0100KB-A; Publisher: Altium Limited; PackageDescription: 100-Pin Plastic Low Profile QFP, 14 x 14 x 1.4 mm Body, 0.5 mm Pitch; Code_JEITA: P-LQFP100-14x14-0.50; Code_IPC: SQFP50P1600X1600-100; ComponentLink1Description: Manufacturer Link; ComponentLink1URL: http://sg.renesas.com/fmwk.jsp?cnt=m16c_family_landing.jsp&fp=/products/mpumcu/m16c_family/; ComponentLink2Description: Datasheet; ComponentLink2URL: http://documentation.renesas.com/eng/products/mpumcu/rej09b0476_r32c120hm.pdf; ComponentLink3Description: Packaging Specification; ComponentLink3URL: http://sg.renesas.com/media/products/common_info/package/pdf/ic/code/plqp0100kb_a.pdf
footprint PLQP0100KB-A_N (Shrink QFP, 100-Leads, Body 14x14mm, Pitch 0.5mm, IPC Medium Density)
footprint PLQP0100KB-A_L (Shrink QFP, 100-Leads, Body 14x14mm, Pitch 0.5mm, IPC High Density)
footprint PLQP0100KB-A_M (Shrink QFP, 100-Leads, Body 14x14mm, Pitch 0.5mm, IPC Low Density)
part A pins: 1 P9_4/TB4IN/~{CTS}4/~{RTS}4/DA1 (io), 2 P9_3/DA0/TB3IN (io), 3 VDC0, 4 P9_1 (io), 5 VDC1, 6 NSD (io), 7 CNVSS (in), 8 P8_7/XCIN (io), 9 P8_6/XCOUT (io), 10 ~{RESET} (in), 11 XOUT (out), 13 XIN (in), 15 P8_5/~{NMI} (io), 16 P8_4/~{INT}2 (io), 17 P8_3/~{INT}1/CAN0IN/~{CAN0WU} (io), 18 P8_2/~{INT}0/CAN0OUT (io), 19 P8_1/TA4IN/~{U}/TA3OUT/~{CTS}3/~{RTS}3/IIO1_5/UD0B/UD1B/LIN1OUT (io), 20 P8_0/TA4OUT/U/RxD3/UD0A/UD1A/LIN1IN (io), 21 P7_7/TA3IN/CLK3/IIO1_4/UD0B/UD1B/CAN0IN/~{CAN0WU} (io), 22 P7_6/TA3OUT/TxD3/IIO1_3/UD0A/UD1A/CAN0OUT (io), 23 P7_5/TA2IN/~{W}/IIO1_2/LIN0IN (io), 24 P7_4/TA2OUT/W/IIO1_1/LIN0OUT (io), 25 P7_3/TA1IN/~{V}/~{CTS}2/~{RTS}2/~{SS}2/IIO1_0 (io), 26 P7_2/TA1OUT/V/CLK2 (io), 27 P7_1/TB5IN/TA0IN/RxD2/SCL2/STxD2/IIO1_7 (io), 28 P7_0/TA0OUT/TxD2/SDA2/SRxD2/IIO1_6 (io), 29 P6_7/TxD1/SDA1/SRxD1 (io), 30 P6_6/RxD1/SCL1/STxD1 (io), 31 P6_5/CLK1 (io), 32 P6_4/~{CTS}1/~{RTS}1/~{SS}1 (io), 33 P6_3/TB5IN/TxD0/SDA0/SRxD0/SSO0 (io), 34 P6_2/TB2IN/RxD0/SCL0/STxD0/SSI0 (io), 35 P6_1/TB1IN/CLK0/SSCK0 (io), 36 P6_0/TB0IN/~{CTS}0/~{RTS}0/~{SS}0 (io), 37 P5_7/IIO0_7 (io), 38 P5_6/IIO0_6 (io), 39 P5_5/IIO0_5 (io), 40 P5_4/IIO0_4 (io), 41 P5_3/CLKOUT/IIO0_3 (io), 42 P5_2/IIO0_2 (io), 43 P5_1/IIO0_1 (io), 44 P5_0/IIO0_0 (io), 45 P4_7/IIO1_7/LIN1IN (io), 46 P4_6/IIO1_6/LIN1OUT (io), 47 P4_5/IIO1_5/LIN0IN (io), 48 P4_4/IIO1_4/LIN0OUT (io), 49 P4_3/TxD3/IIO1_3 (io), 50 P4_2/RxD3/IIO1_2 (io), 51 P4_1/CLK3/IIO1_1 (io), 52 P4_0/~{CTS}3/~{RTS}3/IIO1_0 (io), 53 P3_7/TA4IN/~{U}/TB1IN/~{CTS}4/~{RTS}4 (io), 54 P3_6/TA4OUT/U/TxD4 (io), 55 P3_5/TA2IN/~{W}/RxD4 (io), 56 P3_4/TA2OUT/W/CLK4 (io), 57 P3_3/TA1IN/~{V}/LIN1IN (io), 58 P3_2/TA1OUT/V/LIN1OUT (io), 59 P3_1/TA3OUT/UD0B/UD1B/LIN0IN (io), 61 P3_0/TA0OUT/UD0A/UD1A/LIN0OUT (io), 63 P2_7/AN2_7 (io), 64 P2_6/AN2_6 (io), 65 P2_5/AN2_5 (io), 66 P2_4/AN2_4 (io), 67 P2_3/AN2_3 (io), 68 P2_2/AN2_2 (io), 69 P2_1/AN2_1 (io), 70 P2_0/AN2_0 (io), 71 P1_7/~{INT}5/IIO0_7/IIO1_7 (io), 72 P1_6/~{INT}4/IIO0_6/IIO1_6 (io), 73 P1_5/~{INT}3/IIO0_5/IIO1_5 (io), 74 P1_4/TB0IN/IIO0_4/IIO1_4 (io), 75 P1_3/~{SCS}0/IIO0_3/IIO1_3 (io), 76 P1_2/SSI0/IIO0_2/IIO1_2 (io), 77 P1_1/SSCK0/IIO0_1/IIO1_1 (io), 78 P1_0/SSO0/IIO0_0/IIO1_0 (io), 79 P0_7/AN0_7 (io), 80 P0_6/AN0_6 (io), 81 P0_5/AN0_5 (io), 82 P0_4/AN0_4 (io), 83 P0_3/AN0_3 (io), 84 P0_2/AN0_2 (io), 85 P0_1/AN0_1 (io), 86 P0_0/AN0_0 (io), 87 P10_7/~{KI}3/AN_7 (io), 88 P10_6/~{KI}2/AN_6 (io), 89 P10_5/~{KI}1/AN_5 (io), 90 P10_4/~{KI}0/AN_4 (io), 91 P10_3/AN_3 (io), 92 P10_2/AN_2 (io), 93 P10_1/AN_1 (io), 95 P10_0/AN_0 (io), 96 VREF (in), 98 P9_7/TB2IN/RxD4/~{ADTRG} (io), 99 P9_6/TxD4/ANEX1 (io), 100 P9_5/CLK4/ANEX0 (io)
part B pins: 12 VSS (power), 14 VCC (power), 60 VCC (power), 62 VSS (power), 94 AVSS (power), 97 AVCC / VCC (power)

## R5F64200KFB
designator U?
Flash Memory R32C/100 Series, 120 Group MCU, 128K + 12K ROM, 12K RAM, 100-pin LQFP, Version K; Published: 28-Aug-2009; DatasheetVersion: Rev.0.50, Jul-2008; PackageVersion: Sep-2005; PackageReference: PLQP0100KB-A; Publisher: Altium Limited; PackageDescription: 100-Pin Plastic Low Profile QFP, 14 x 14 x 1.4 mm Body, 0.5 mm Pitch; Code_JEITA: P-LQFP100-14x14-0.50; Code_IPC: SQFP50P1600X1600-100; ComponentLink1Description: Manufacturer Link; ComponentLink1URL: http://sg.renesas.com/fmwk.jsp?cnt=m16c_family_landing.jsp&fp=/products/mpumcu/m16c_family/; ComponentLink2Description: Datasheet; ComponentLink2URL: http://documentation.renesas.com/eng/products/mpumcu/rej09b0476_r32c120hm.pdf; ComponentLink3Description: Packaging Specification; ComponentLink3URL: http://sg.renesas.com/media/products/common_info/package/pdf/ic/code/plqp0100kb_a.pdf
footprint PLQP0100KB-A_N (Shrink QFP, 100-Leads, Body 14x14mm, Pitch 0.5mm, IPC Medium Density)
footprint PLQP0100KB-A_L (Shrink QFP, 100-Leads, Body 14x14mm, Pitch 0.5mm, IPC High Density)
footprint PLQP0100KB-A_M (Shrink QFP, 100-Leads, Body 14x14mm, Pitch 0.5mm, IPC Low Density)
part A pins: 1 P9_4/TB4IN/~{CTS}4/~{RTS}4/DA1 (io), 2 P9_3/DA0/TB3IN (io), 3 VDC0, 4 P9_1 (io), 5 VDC1, 6 NSD (io), 7 CNVSS (in), 8 P8_7/XCIN (io), 9 P8_6/XCOUT (io), 10 ~{RESET} (in), 11 XOUT (out), 13 XIN (in), 15 P8_5/~{NMI} (io), 16 P8_4/~{INT}2 (io), 17 P8_3/~{INT}1/CAN0IN/~{CAN0WU} (io), 18 P8_2/~{INT}0/CAN0OUT (io), 19 P8_1/TA4IN/~{U}/TA3OUT/~{CTS}3/~{RTS}3/IIO1_5/UD0B/UD1B/LIN1OUT (io), 20 P8_0/TA4OUT/U/RxD3/UD0A/UD1A/LIN1IN (io), 21 P7_7/TA3IN/CLK3/IIO1_4/UD0B/UD1B/CAN0IN/~{CAN0WU} (io), 22 P7_6/TA3OUT/TxD3/IIO1_3/UD0A/UD1A/CAN0OUT (io), 23 P7_5/TA2IN/~{W}/IIO1_2/LIN0IN (io), 24 P7_4/TA2OUT/W/IIO1_1/LIN0OUT (io), 25 P7_3/TA1IN/~{V}/~{CTS}2/~{RTS}2/~{SS}2/IIO1_0 (io), 26 P7_2/TA1OUT/V/CLK2 (io), 27 P7_1/TB5IN/TA0IN/RxD2/SCL2/STxD2/IIO1_7 (io), 28 P7_0/TA0OUT/TxD2/SDA2/SRxD2/IIO1_6 (io), 29 P6_7/TxD1/SDA1/SRxD1 (io), 30 P6_6/RxD1/SCL1/STxD1 (io), 31 P6_5/CLK1 (io), 32 P6_4/~{CTS}1/~{RTS}1/~{SS}1 (io), 33 P6_3/TB5IN/TxD0/SDA0/SRxD0/SSO0 (io), 34 P6_2/TB2IN/RxD0/SCL0/STxD0/SSI0 (io), 35 P6_1/TB1IN/CLK0/SSCK0 (io), 36 P6_0/TB0IN/~{CTS}0/~{RTS}0/~{SS}0 (io), 37 P5_7/IIO0_7 (io), 38 P5_6/IIO0_6 (io), 39 P5_5/IIO0_5 (io), 40 P5_4/IIO0_4 (io), 41 P5_3/CLKOUT/IIO0_3 (io), 42 P5_2/IIO0_2 (io), 43 P5_1/IIO0_1 (io), 44 P5_0/IIO0_0 (io), 45 P4_7/IIO1_7/LIN1IN (io), 46 P4_6/IIO1_6/LIN1OUT (io), 47 P4_5/IIO1_5/LIN0IN (io), 48 P4_4/IIO1_4/LIN0OUT (io), 49 P4_3/TxD3/IIO1_3 (io), 50 P4_2/RxD3/IIO1_2 (io), 51 P4_1/CLK3/IIO1_1 (io), 52 P4_0/~{CTS}3/~{RTS}3/IIO1_0 (io), 53 P3_7/TA4IN/~{U}/TB1IN/~{CTS}4/~{RTS}4 (io), 54 P3_6/TA4OUT/U/TxD4 (io), 55 P3_5/TA2IN/~{W}/RxD4 (io), 56 P3_4/TA2OUT/W/CLK4 (io), 57 P3_3/TA1IN/~{V}/LIN1IN (io), 58 P3_2/TA1OUT/V/LIN1OUT (io), 59 P3_1/TA3OUT/UD0B/UD1B/LIN0IN (io), 61 P3_0/TA0OUT/UD0A/UD1A/LIN0OUT (io), 63 P2_7/AN2_7 (io), 64 P2_6/AN2_6 (io), 65 P2_5/AN2_5 (io), 66 P2_4/AN2_4 (io), 67 P2_3/AN2_3 (io), 68 P2_2/AN2_2 (io), 69 P2_1/AN2_1 (io), 70 P2_0/AN2_0 (io), 71 P1_7/~{INT}5/IIO0_7/IIO1_7 (io), 72 P1_6/~{INT}4/IIO0_6/IIO1_6 (io), 73 P1_5/~{INT}3/IIO0_5/IIO1_5 (io), 74 P1_4/TB0IN/IIO0_4/IIO1_4 (io), 75 P1_3/~{SCS}0/IIO0_3/IIO1_3 (io), 76 P1_2/SSI0/IIO0_2/IIO1_2 (io), 77 P1_1/SSCK0/IIO0_1/IIO1_1 (io), 78 P1_0/SSO0/IIO0_0/IIO1_0 (io), 79 P0_7/AN0_7 (io), 80 P0_6/AN0_6 (io), 81 P0_5/AN0_5 (io), 82 P0_4/AN0_4 (io), 83 P0_3/AN0_3 (io), 84 P0_2/AN0_2 (io), 85 P0_1/AN0_1 (io), 86 P0_0/AN0_0 (io), 87 P10_7/~{KI}3/AN_7 (io), 88 P10_6/~{KI}2/AN_6 (io), 89 P10_5/~{KI}1/AN_5 (io), 90 P10_4/~{KI}0/AN_4 (io), 91 P10_3/AN_3 (io), 92 P10_2/AN_2 (io), 93 P10_1/AN_1 (io), 95 P10_0/AN_0 (io), 96 VREF (in), 98 P9_7/TB2IN/RxD4/~{ADTRG} (io), 99 P9_6/TxD4/ANEX1 (io), 100 P9_5/CLK4/ANEX0 (io)
part B pins: 12 VSS (power), 14 VCC (power), 60 VCC (power), 62 VSS (power), 94 AVSS (power), 97 AVCC / VCC (power)

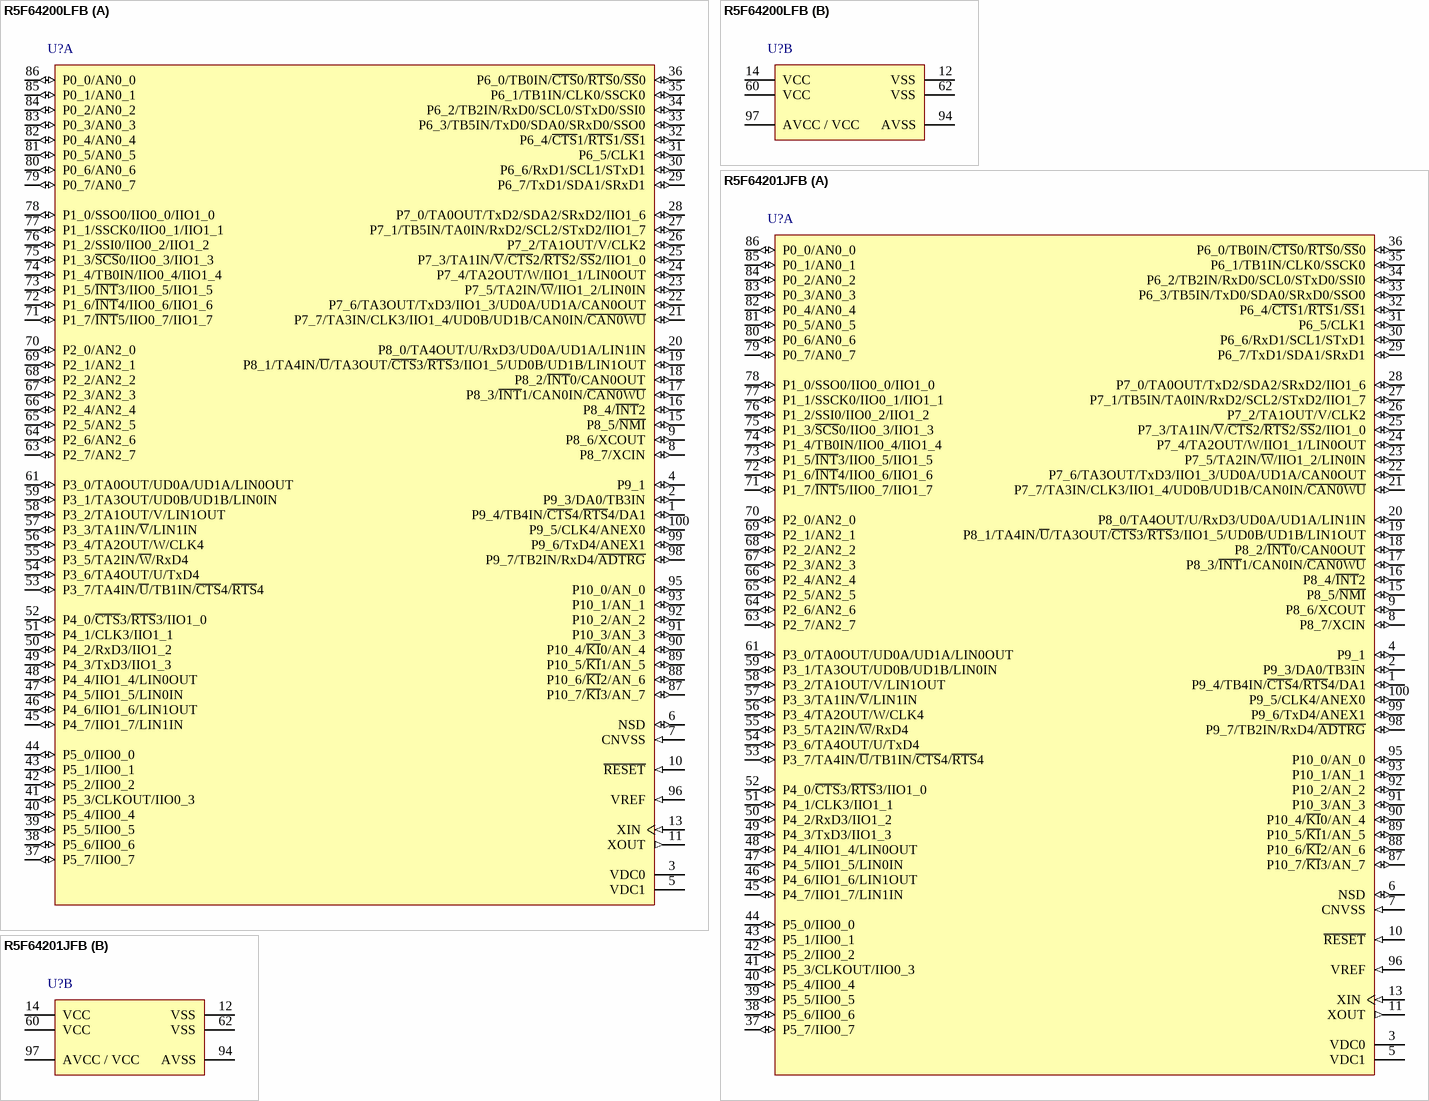
[diagram p107: symbols R5F64200LFB to R5F64201JFB]

## R5F64200LFB
designator U?
Flash Memory R32C/100 Series, 120 Group MCU, 128K + 12K ROM, 12K RAM, 100-pin LQFP, Version L; Published: 28-Aug-2009; DatasheetVersion: Rev.0.50, Jul-2008; PackageVersion: Sep-2005; PackageReference: PLQP0100KB-A; Publisher: Altium Limited; PackageDescription: 100-Pin Plastic Low Profile QFP, 14 x 14 x 1.4 mm Body, 0.5 mm Pitch; Code_JEITA: P-LQFP100-14x14-0.50; Code_IPC: SQFP50P1600X1600-100; ComponentLink1Description: Manufacturer Link; ComponentLink1URL: http://sg.renesas.com/fmwk.jsp?cnt=m16c_family_landing.jsp&fp=/products/mpumcu/m16c_family/; ComponentLink2Description: Datasheet; ComponentLink2URL: http://documentation.renesas.com/eng/products/mpumcu/rej09b0476_r32c120hm.pdf; ComponentLink3Description: Packaging Specification; ComponentLink3URL: http://sg.renesas.com/media/products/common_info/package/pdf/ic/code/plqp0100kb_a.pdf
footprint PLQP0100KB-A_N (Shrink QFP, 100-Leads, Body 14x14mm, Pitch 0.5mm, IPC Medium Density)
footprint PLQP0100KB-A_L (Shrink QFP, 100-Leads, Body 14x14mm, Pitch 0.5mm, IPC High Density)
footprint PLQP0100KB-A_M (Shrink QFP, 100-Leads, Body 14x14mm, Pitch 0.5mm, IPC Low Density)
part A pins: 1 P9_4/TB4IN/~{CTS}4/~{RTS}4/DA1 (io), 2 P9_3/DA0/TB3IN (io), 3 VDC0, 4 P9_1 (io), 5 VDC1, 6 NSD (io), 7 CNVSS (in), 8 P8_7/XCIN (io), 9 P8_6/XCOUT (io), 10 ~{RESET} (in), 11 XOUT (out), 13 XIN (in), 15 P8_5/~{NMI} (io), 16 P8_4/~{INT}2 (io), 17 P8_3/~{INT}1/CAN0IN/~{CAN0WU} (io), 18 P8_2/~{INT}0/CAN0OUT (io), 19 P8_1/TA4IN/~{U}/TA3OUT/~{CTS}3/~{RTS}3/IIO1_5/UD0B/UD1B/LIN1OUT (io), 20 P8_0/TA4OUT/U/RxD3/UD0A/UD1A/LIN1IN (io), 21 P7_7/TA3IN/CLK3/IIO1_4/UD0B/UD1B/CAN0IN/~{CAN0WU} (io), 22 P7_6/TA3OUT/TxD3/IIO1_3/UD0A/UD1A/CAN0OUT (io), 23 P7_5/TA2IN/~{W}/IIO1_2/LIN0IN (io), 24 P7_4/TA2OUT/W/IIO1_1/LIN0OUT (io), 25 P7_3/TA1IN/~{V}/~{CTS}2/~{RTS}2/~{SS}2/IIO1_0 (io), 26 P7_2/TA1OUT/V/CLK2 (io), 27 P7_1/TB5IN/TA0IN/RxD2/SCL2/STxD2/IIO1_7 (io), 28 P7_0/TA0OUT/TxD2/SDA2/SRxD2/IIO1_6 (io), 29 P6_7/TxD1/SDA1/SRxD1 (io), 30 P6_6/RxD1/SCL1/STxD1 (io), 31 P6_5/CLK1 (io), 32 P6_4/~{CTS}1/~{RTS}1/~{SS}1 (io), 33 P6_3/TB5IN/TxD0/SDA0/SRxD0/SSO0 (io), 34 P6_2/TB2IN/RxD0/SCL0/STxD0/SSI0 (io), 35 P6_1/TB1IN/CLK0/SSCK0 (io), 36 P6_0/TB0IN/~{CTS}0/~{RTS}0/~{SS}0 (io), 37 P5_7/IIO0_7 (io), 38 P5_6/IIO0_6 (io), 39 P5_5/IIO0_5 (io), 40 P5_4/IIO0_4 (io), 41 P5_3/CLKOUT/IIO0_3 (io), 42 P5_2/IIO0_2 (io), 43 P5_1/IIO0_1 (io), 44 P5_0/IIO0_0 (io), 45 P4_7/IIO1_7/LIN1IN (io), 46 P4_6/IIO1_6/LIN1OUT (io), 47 P4_5/IIO1_5/LIN0IN (io), 48 P4_4/IIO1_4/LIN0OUT (io), 49 P4_3/TxD3/IIO1_3 (io), 50 P4_2/RxD3/IIO1_2 (io), 51 P4_1/CLK3/IIO1_1 (io), 52 P4_0/~{CTS}3/~{RTS}3/IIO1_0 (io), 53 P3_7/TA4IN/~{U}/TB1IN/~{CTS}4/~{RTS}4 (io), 54 P3_6/TA4OUT/U/TxD4 (io), 55 P3_5/TA2IN/~{W}/RxD4 (io), 56 P3_4/TA2OUT/W/CLK4 (io), 57 P3_3/TA1IN/~{V}/LIN1IN (io), 58 P3_2/TA1OUT/V/LIN1OUT (io), 59 P3_1/TA3OUT/UD0B/UD1B/LIN0IN (io), 61 P3_0/TA0OUT/UD0A/UD1A/LIN0OUT (io), 63 P2_7/AN2_7 (io), 64 P2_6/AN2_6 (io), 65 P2_5/AN2_5 (io), 66 P2_4/AN2_4 (io), 67 P2_3/AN2_3 (io), 68 P2_2/AN2_2 (io), 69 P2_1/AN2_1 (io), 70 P2_0/AN2_0 (io), 71 P1_7/~{INT}5/IIO0_7/IIO1_7 (io), 72 P1_6/~{INT}4/IIO0_6/IIO1_6 (io), 73 P1_5/~{INT}3/IIO0_5/IIO1_5 (io), 74 P1_4/TB0IN/IIO0_4/IIO1_4 (io), 75 P1_3/~{SCS}0/IIO0_3/IIO1_3 (io), 76 P1_2/SSI0/IIO0_2/IIO1_2 (io), 77 P1_1/SSCK0/IIO0_1/IIO1_1 (io), 78 P1_0/SSO0/IIO0_0/IIO1_0 (io), 79 P0_7/AN0_7 (io), 80 P0_6/AN0_6 (io), 81 P0_5/AN0_5 (io), 82 P0_4/AN0_4 (io), 83 P0_3/AN0_3 (io), 84 P0_2/AN0_2 (io), 85 P0_1/AN0_1 (io), 86 P0_0/AN0_0 (io), 87 P10_7/~{KI}3/AN_7 (io), 88 P10_6/~{KI}2/AN_6 (io), 89 P10_5/~{KI}1/AN_5 (io), 90 P10_4/~{KI}0/AN_4 (io), 91 P10_3/AN_3 (io), 92 P10_2/AN_2 (io), 93 P10_1/AN_1 (io), 95 P10_0/AN_0 (io), 96 VREF (in), 98 P9_7/TB2IN/RxD4/~{ADTRG} (io), 99 P9_6/TxD4/ANEX1 (io), 100 P9_5/CLK4/ANEX0 (io)
part B pins: 12 VSS (power), 14 VCC (power), 60 VCC (power), 62 VSS (power), 94 AVSS (power), 97 AVCC / VCC (power)

## R5F64201JFB
designator U?
Flash Memory R32C/100 Series, 120 Group MCU, 256K + 12K ROM, 20K RAM, 100-pin LQFP, Version J; Published: 28-Aug-2009; DatasheetVersion: Rev.0.50, Jul-2008; PackageVersion: Sep-2005; PackageReference: PLQP0100KB-A; Publisher: Altium Limited; PackageDescription: 100-Pin Plastic Low Profile QFP, 14 x 14 x 1.4 mm Body, 0.5 mm Pitch; Code_JEITA: P-LQFP100-14x14-0.50; Code_IPC: SQFP50P1600X1600-100; ComponentLink1Description: Manufacturer Link; ComponentLink1URL: http://sg.renesas.com/fmwk.jsp?cnt=m16c_family_landing.jsp&fp=/products/mpumcu/m16c_family/; ComponentLink2Description: Datasheet; ComponentLink2URL: http://documentation.renesas.com/eng/products/mpumcu/rej09b0476_r32c120hm.pdf; ComponentLink3Description: Packaging Specification; ComponentLink3URL: http://sg.renesas.com/media/products/common_info/package/pdf/ic/code/plqp0100kb_a.pdf
footprint PLQP0100KB-A_N (Shrink QFP, 100-Leads, Body 14x14mm, Pitch 0.5mm, IPC Medium Density)
footprint PLQP0100KB-A_L (Shrink QFP, 100-Leads, Body 14x14mm, Pitch 0.5mm, IPC High Density)
footprint PLQP0100KB-A_M (Shrink QFP, 100-Leads, Body 14x14mm, Pitch 0.5mm, IPC Low Density)
part A pins: 1 P9_4/TB4IN/~{CTS}4/~{RTS}4/DA1 (io), 2 P9_3/DA0/TB3IN (io), 3 VDC0, 4 P9_1 (io), 5 VDC1, 6 NSD (io), 7 CNVSS (in), 8 P8_7/XCIN (io), 9 P8_6/XCOUT (io), 10 ~{RESET} (in), 11 XOUT (out), 13 XIN (in), 15 P8_5/~{NMI} (io), 16 P8_4/~{INT}2 (io), 17 P8_3/~{INT}1/CAN0IN/~{CAN0WU} (io), 18 P8_2/~{INT}0/CAN0OUT (io), 19 P8_1/TA4IN/~{U}/TA3OUT/~{CTS}3/~{RTS}3/IIO1_5/UD0B/UD1B/LIN1OUT (io), 20 P8_0/TA4OUT/U/RxD3/UD0A/UD1A/LIN1IN (io), 21 P7_7/TA3IN/CLK3/IIO1_4/UD0B/UD1B/CAN0IN/~{CAN0WU} (io), 22 P7_6/TA3OUT/TxD3/IIO1_3/UD0A/UD1A/CAN0OUT (io), 23 P7_5/TA2IN/~{W}/IIO1_2/LIN0IN (io), 24 P7_4/TA2OUT/W/IIO1_1/LIN0OUT (io), 25 P7_3/TA1IN/~{V}/~{CTS}2/~{RTS}2/~{SS}2/IIO1_0 (io), 26 P7_2/TA1OUT/V/CLK2 (io), 27 P7_1/TB5IN/TA0IN/RxD2/SCL2/STxD2/IIO1_7 (io), 28 P7_0/TA0OUT/TxD2/SDA2/SRxD2/IIO1_6 (io), 29 P6_7/TxD1/SDA1/SRxD1 (io), 30 P6_6/RxD1/SCL1/STxD1 (io), 31 P6_5/CLK1 (io), 32 P6_4/~{CTS}1/~{RTS}1/~{SS}1 (io), 33 P6_3/TB5IN/TxD0/SDA0/SRxD0/SSO0 (io), 34 P6_2/TB2IN/RxD0/SCL0/STxD0/SSI0 (io), 35 P6_1/TB1IN/CLK0/SSCK0 (io), 36 P6_0/TB0IN/~{CTS}0/~{RTS}0/~{SS}0 (io), 37 P5_7/IIO0_7 (io), 38 P5_6/IIO0_6 (io), 39 P5_5/IIO0_5 (io), 40 P5_4/IIO0_4 (io), 41 P5_3/CLKOUT/IIO0_3 (io), 42 P5_2/IIO0_2 (io), 43 P5_1/IIO0_1 (io), 44 P5_0/IIO0_0 (io), 45 P4_7/IIO1_7/LIN1IN (io), 46 P4_6/IIO1_6/LIN1OUT (io), 47 P4_5/IIO1_5/LIN0IN (io), 48 P4_4/IIO1_4/LIN0OUT (io), 49 P4_3/TxD3/IIO1_3 (io), 50 P4_2/RxD3/IIO1_2 (io), 51 P4_1/CLK3/IIO1_1 (io), 52 P4_0/~{CTS}3/~{RTS}3/IIO1_0 (io), 53 P3_7/TA4IN/~{U}/TB1IN/~{CTS}4/~{RTS}4 (io), 54 P3_6/TA4OUT/U/TxD4 (io), 55 P3_5/TA2IN/~{W}/RxD4 (io), 56 P3_4/TA2OUT/W/CLK4 (io), 57 P3_3/TA1IN/~{V}/LIN1IN (io), 58 P3_2/TA1OUT/V/LIN1OUT (io), 59 P3_1/TA3OUT/UD0B/UD1B/LIN0IN (io), 61 P3_0/TA0OUT/UD0A/UD1A/LIN0OUT (io), 63 P2_7/AN2_7 (io), 64 P2_6/AN2_6 (io), 65 P2_5/AN2_5 (io), 66 P2_4/AN2_4 (io), 67 P2_3/AN2_3 (io), 68 P2_2/AN2_2 (io), 69 P2_1/AN2_1 (io), 70 P2_0/AN2_0 (io), 71 P1_7/~{INT}5/IIO0_7/IIO1_7 (io), 72 P1_6/~{INT}4/IIO0_6/IIO1_6 (io), 73 P1_5/~{INT}3/IIO0_5/IIO1_5 (io), 74 P1_4/TB0IN/IIO0_4/IIO1_4 (io), 75 P1_3/~{SCS}0/IIO0_3/IIO1_3 (io), 76 P1_2/SSI0/IIO0_2/IIO1_2 (io), 77 P1_1/SSCK0/IIO0_1/IIO1_1 (io), 78 P1_0/SSO0/IIO0_0/IIO1_0 (io), 79 P0_7/AN0_7 (io), 80 P0_6/AN0_6 (io), 81 P0_5/AN0_5 (io), 82 P0_4/AN0_4 (io), 83 P0_3/AN0_3 (io), 84 P0_2/AN0_2 (io), 85 P0_1/AN0_1 (io), 86 P0_0/AN0_0 (io), 87 P10_7/~{KI}3/AN_7 (io), 88 P10_6/~{KI}2/AN_6 (io), 89 P10_5/~{KI}1/AN_5 (io), 90 P10_4/~{KI}0/AN_4 (io), 91 P10_3/AN_3 (io), 92 P10_2/AN_2 (io), 93 P10_1/AN_1 (io), 95 P10_0/AN_0 (io), 96 VREF (in), 98 P9_7/TB2IN/RxD4/~{ADTRG} (io), 99 P9_6/TxD4/ANEX1 (io), 100 P9_5/CLK4/ANEX0 (io)
part B pins: 12 VSS (power), 14 VCC (power), 60 VCC (power), 62 VSS (power), 94 AVSS (power), 97 AVCC / VCC (power)

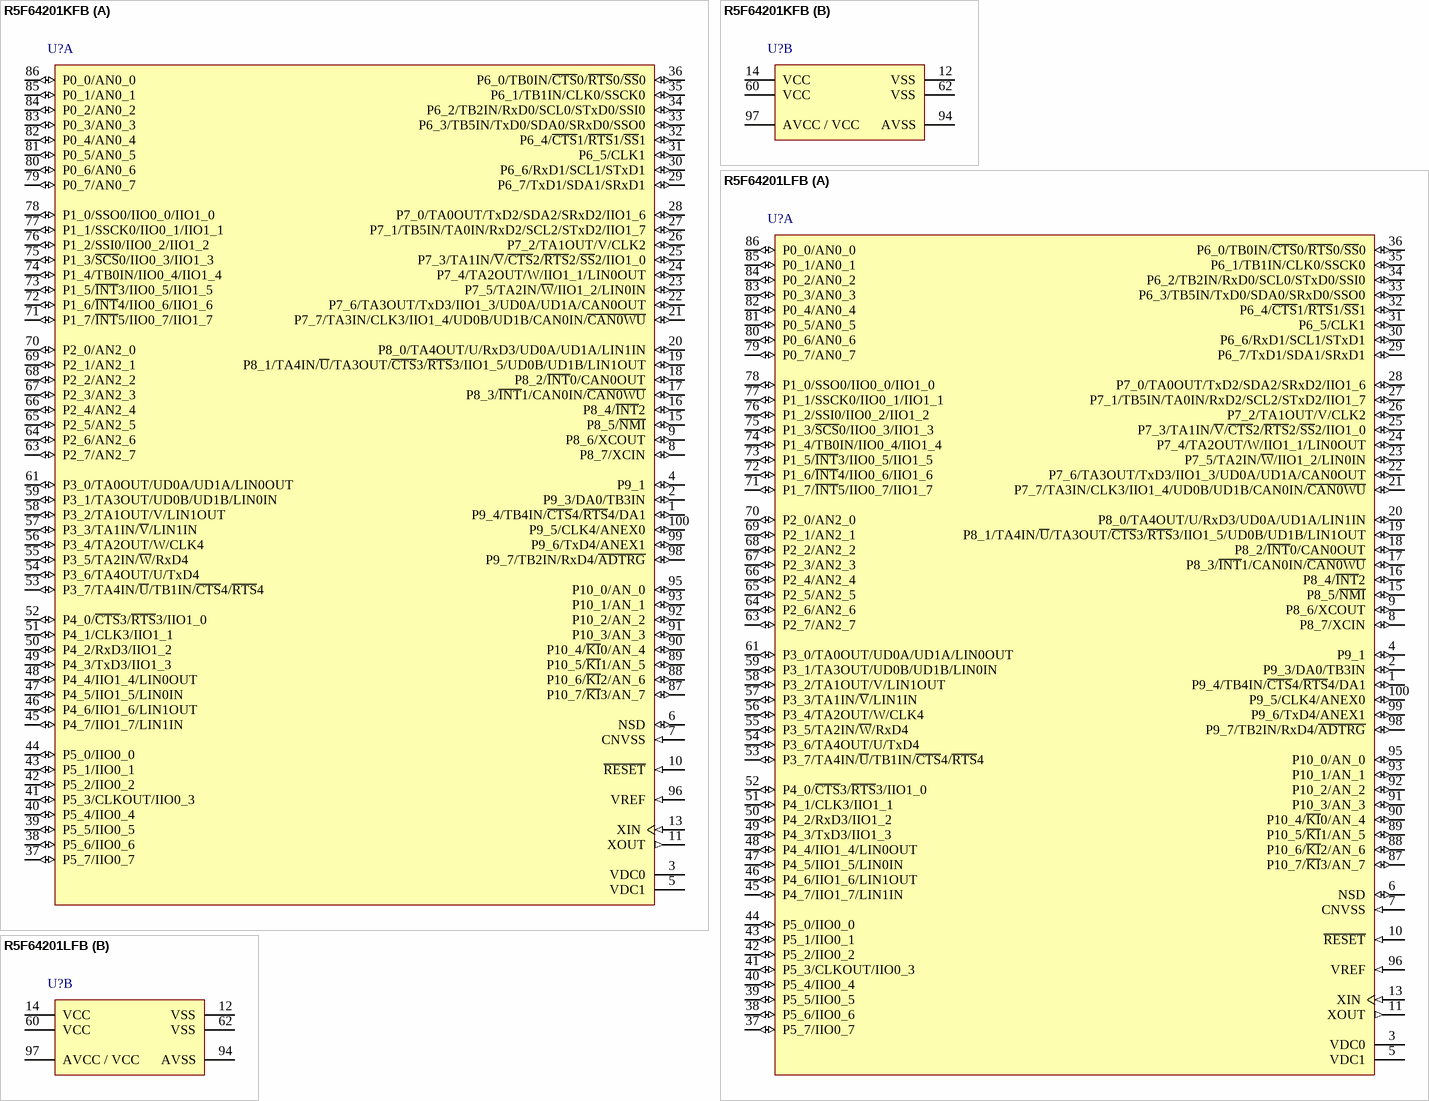
[diagram p108: symbols R5F64201KFB to R5F64201LFB]

## R5F64201KFB
designator U?
Flash Memory R32C/100 Series, 120 Group MCU, 256K + 12K ROM, 20K RAM, 100-pin LQFP, Version K; Published: 28-Aug-2009; DatasheetVersion: Rev.0.50, Jul-2008; PackageVersion: Sep-2005; PackageReference: PLQP0100KB-A; Publisher: Altium Limited; PackageDescription: 100-Pin Plastic Low Profile QFP, 14 x 14 x 1.4 mm Body, 0.5 mm Pitch; Code_JEITA: P-LQFP100-14x14-0.50; Code_IPC: SQFP50P1600X1600-100; ComponentLink1Description: Manufacturer Link; ComponentLink1URL: http://sg.renesas.com/fmwk.jsp?cnt=m16c_family_landing.jsp&fp=/products/mpumcu/m16c_family/; ComponentLink2Description: Datasheet; ComponentLink2URL: http://documentation.renesas.com/eng/products/mpumcu/rej09b0476_r32c120hm.pdf; ComponentLink3Description: Packaging Specification; ComponentLink3URL: http://sg.renesas.com/media/products/common_info/package/pdf/ic/code/plqp0100kb_a.pdf
footprint PLQP0100KB-A_N (Shrink QFP, 100-Leads, Body 14x14mm, Pitch 0.5mm, IPC Medium Density)
footprint PLQP0100KB-A_L (Shrink QFP, 100-Leads, Body 14x14mm, Pitch 0.5mm, IPC High Density)
footprint PLQP0100KB-A_M (Shrink QFP, 100-Leads, Body 14x14mm, Pitch 0.5mm, IPC Low Density)
part A pins: 1 P9_4/TB4IN/~{CTS}4/~{RTS}4/DA1 (io), 2 P9_3/DA0/TB3IN (io), 3 VDC0, 4 P9_1 (io), 5 VDC1, 6 NSD (io), 7 CNVSS (in), 8 P8_7/XCIN (io), 9 P8_6/XCOUT (io), 10 ~{RESET} (in), 11 XOUT (out), 13 XIN (in), 15 P8_5/~{NMI} (io), 16 P8_4/~{INT}2 (io), 17 P8_3/~{INT}1/CAN0IN/~{CAN0WU} (io), 18 P8_2/~{INT}0/CAN0OUT (io), 19 P8_1/TA4IN/~{U}/TA3OUT/~{CTS}3/~{RTS}3/IIO1_5/UD0B/UD1B/LIN1OUT (io), 20 P8_0/TA4OUT/U/RxD3/UD0A/UD1A/LIN1IN (io), 21 P7_7/TA3IN/CLK3/IIO1_4/UD0B/UD1B/CAN0IN/~{CAN0WU} (io), 22 P7_6/TA3OUT/TxD3/IIO1_3/UD0A/UD1A/CAN0OUT (io), 23 P7_5/TA2IN/~{W}/IIO1_2/LIN0IN (io), 24 P7_4/TA2OUT/W/IIO1_1/LIN0OUT (io), 25 P7_3/TA1IN/~{V}/~{CTS}2/~{RTS}2/~{SS}2/IIO1_0 (io), 26 P7_2/TA1OUT/V/CLK2 (io), 27 P7_1/TB5IN/TA0IN/RxD2/SCL2/STxD2/IIO1_7 (io), 28 P7_0/TA0OUT/TxD2/SDA2/SRxD2/IIO1_6 (io), 29 P6_7/TxD1/SDA1/SRxD1 (io), 30 P6_6/RxD1/SCL1/STxD1 (io), 31 P6_5/CLK1 (io), 32 P6_4/~{CTS}1/~{RTS}1/~{SS}1 (io), 33 P6_3/TB5IN/TxD0/SDA0/SRxD0/SSO0 (io), 34 P6_2/TB2IN/RxD0/SCL0/STxD0/SSI0 (io), 35 P6_1/TB1IN/CLK0/SSCK0 (io), 36 P6_0/TB0IN/~{CTS}0/~{RTS}0/~{SS}0 (io), 37 P5_7/IIO0_7 (io), 38 P5_6/IIO0_6 (io), 39 P5_5/IIO0_5 (io), 40 P5_4/IIO0_4 (io), 41 P5_3/CLKOUT/IIO0_3 (io), 42 P5_2/IIO0_2 (io), 43 P5_1/IIO0_1 (io), 44 P5_0/IIO0_0 (io), 45 P4_7/IIO1_7/LIN1IN (io), 46 P4_6/IIO1_6/LIN1OUT (io), 47 P4_5/IIO1_5/LIN0IN (io), 48 P4_4/IIO1_4/LIN0OUT (io), 49 P4_3/TxD3/IIO1_3 (io), 50 P4_2/RxD3/IIO1_2 (io), 51 P4_1/CLK3/IIO1_1 (io), 52 P4_0/~{CTS}3/~{RTS}3/IIO1_0 (io), 53 P3_7/TA4IN/~{U}/TB1IN/~{CTS}4/~{RTS}4 (io), 54 P3_6/TA4OUT/U/TxD4 (io), 55 P3_5/TA2IN/~{W}/RxD4 (io), 56 P3_4/TA2OUT/W/CLK4 (io), 57 P3_3/TA1IN/~{V}/LIN1IN (io), 58 P3_2/TA1OUT/V/LIN1OUT (io), 59 P3_1/TA3OUT/UD0B/UD1B/LIN0IN (io), 61 P3_0/TA0OUT/UD0A/UD1A/LIN0OUT (io), 63 P2_7/AN2_7 (io), 64 P2_6/AN2_6 (io), 65 P2_5/AN2_5 (io), 66 P2_4/AN2_4 (io), 67 P2_3/AN2_3 (io), 68 P2_2/AN2_2 (io), 69 P2_1/AN2_1 (io), 70 P2_0/AN2_0 (io), 71 P1_7/~{INT}5/IIO0_7/IIO1_7 (io), 72 P1_6/~{INT}4/IIO0_6/IIO1_6 (io), 73 P1_5/~{INT}3/IIO0_5/IIO1_5 (io), 74 P1_4/TB0IN/IIO0_4/IIO1_4 (io), 75 P1_3/~{SCS}0/IIO0_3/IIO1_3 (io), 76 P1_2/SSI0/IIO0_2/IIO1_2 (io), 77 P1_1/SSCK0/IIO0_1/IIO1_1 (io), 78 P1_0/SSO0/IIO0_0/IIO1_0 (io), 79 P0_7/AN0_7 (io), 80 P0_6/AN0_6 (io), 81 P0_5/AN0_5 (io), 82 P0_4/AN0_4 (io), 83 P0_3/AN0_3 (io), 84 P0_2/AN0_2 (io), 85 P0_1/AN0_1 (io), 86 P0_0/AN0_0 (io), 87 P10_7/~{KI}3/AN_7 (io), 88 P10_6/~{KI}2/AN_6 (io), 89 P10_5/~{KI}1/AN_5 (io), 90 P10_4/~{KI}0/AN_4 (io), 91 P10_3/AN_3 (io), 92 P10_2/AN_2 (io), 93 P10_1/AN_1 (io), 95 P10_0/AN_0 (io), 96 VREF (in), 98 P9_7/TB2IN/RxD4/~{ADTRG} (io), 99 P9_6/TxD4/ANEX1 (io), 100 P9_5/CLK4/ANEX0 (io)
part B pins: 12 VSS (power), 14 VCC (power), 60 VCC (power), 62 VSS (power), 94 AVSS (power), 97 AVCC / VCC (power)